# Altium schematic symbol library MCU_Microchip_PIC18.SchLib: 172 symbols (part 2 of 4)
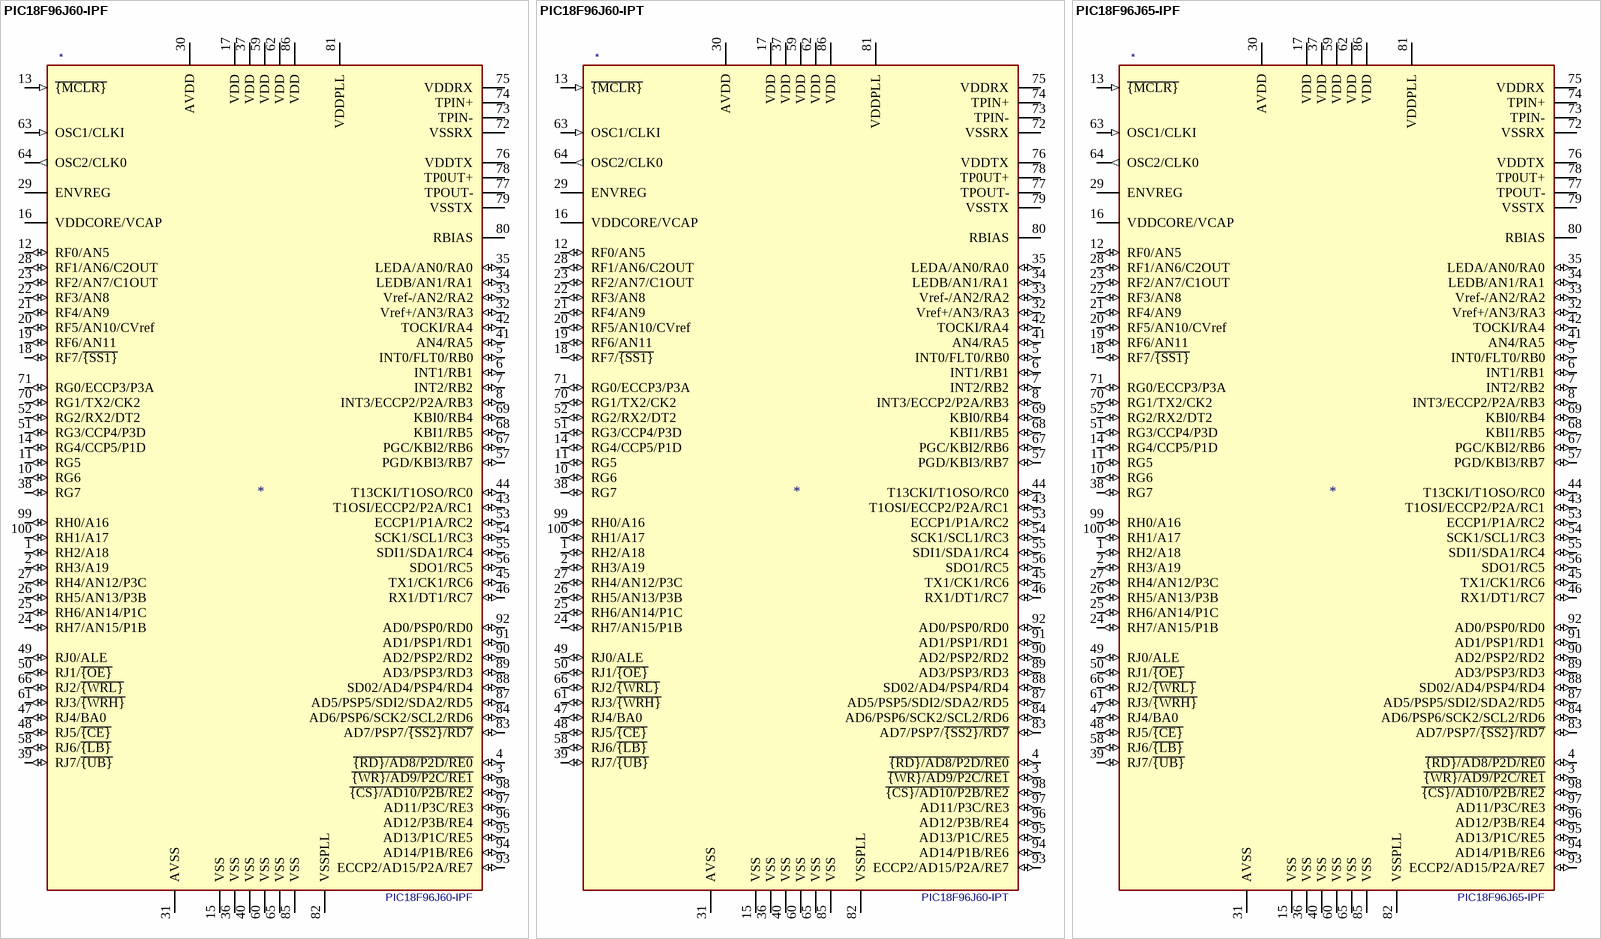
[diagram p17: symbols PIC18F96J60-IPF to PIC18F96J65-IPF]

## PIC18F96J60-IPT
designator *  value PIC18F96J60-IPT
ki_keywords: Flash Based 8-Bit Microcontroller Ethernet Controller PHY; ki_description: 64K Flash, 3.7K SRAM, Ethernet Controller with PHY, 8K Buffer, TQFP100; ki_fp_filters: TQFP*12x12mm*P0.4mm* TQFP*14x14mm*P0.5mm*; Footprint: Package_QFP:TQFP-100_12x12mm_P0.4mm; Supplier: http://ww1.microchip.com/downloads/en/DeviceDoc/39762f.pdf
footprint TQFP-100_12x12mm_P0.4mm
pins: 1 RH2/A18 (io), 2 RH3/A19 (io), 3 ~{{WR}/AD9/P2C/RE1} (io), 4 ~{{RD}/AD8/P2D/RE0} (io), 5 INT0/FLT0/RB0 (io), 6 INT1/RB1 (io), 7 INT2/RB2 (io), 8 INT3/ECCP2/P2A/RB3 (io), 9 NC (in) hidden, 10 RG6 (io), 11 RG5 (io), 12 RF0/AN5 (io), 13 ~{{MCLR}} (in), 14 RG4/CCP5/P1D (io), 15 VSS (power), 16 VDDCORE/VCAP, 17 VDD (power), 18 RF7/~{{SS1}} (io), 19 RF6/AN11 (io), 20 RF5/AN10/CVref (io), 21 RF4/AN9 (io), 22 RF3/AN8 (io), 23 RF2/AN7/C1OUT (io), 24 RH7/AN15/P1B (io), 25 RH6/AN14/P1C (io), 26 RH5/AN13/P3B (io), 27 RH4/AN12/P3C (io), 28 RF1/AN6/C2OUT (io), 29 ENVREG, 30 AVDD (power), 31 AVSS (power), 32 Vref+/AN3/RA3 (io), 33 Vref-/AN2/RA2 (io), 34 LEDB/AN1/RA1 (io), 35 LEDA/AN0/RA0 (io), 36 VSS (power), 37 VDD (power), 38 RG7 (io), 39 RJ7/~{{UB}} (io), 40 VSS (power), 41 AN4/RA5 (io), 42 TOCKI/RA4 (io), 43 T1OSI/ECCP2/P2A/RC1 (io), 44 T13CKI/T1OSO/RC0 (io), 45 TX1/CK1/RC6 (io), 46 RX1/DT1/RC7 (io), 47 RJ4/BA0 (io), 48 RJ5/~{{CE}} (io), 49 RJ0/ALE (io), 50 RJ1/~{{OE}} (io), 51 RG3/CCP4/P3D (io), 52 RG2/RX2/DT2 (io), 53 ECCP1/P1A/RC2 (io), 54 SCK1/SCL1/RC3 (io), 55 SDI1/SDA1/RC4 (io), 56 SDO1/RC5 (io), 57 PGD/KBI3/RB7 (io), 58 RJ6/~{{LB}} (io), 59 VDD (power), 60 VSS (power), 61 RJ3/~{{WRH}} (io), 62 VDD (power), 63 OSC1/CLKI (in), 64 OSC2/CLK0 (out), 65 VSS (power), 66 RJ2/~{{WRL}} (io), 67 PGC/KBI2/RB6 (io), 68 KBI1/RB5 (io), 69 KBI0/RB4 (io), 70 RG1/TX2/CK2 (io), 71 RG0/ECCP3/P3A (io), 72 VSSRX (power), 73 TPIN-, 74 TPIN+, 75 VDDRX (power), 76 VDDTX (power), 77 TPOUT-, 78 TP0UT+, 79 VSSTX (power), 80 RBIAS, 81 VDDPLL (power), 82 VSSPLL (power), 83 AD7/PSP7/~{{SS2}/RD7} (io), 84 AD6/PSP6/SCK2/SCL2/RD6 (io), 85 VSS (power), 86 VDD (power), 87 AD5/PSP5/SDI2/SDA2/RD5 (io), 88 SD02/AD4/PSP4/RD4 (io), 89 AD3/PSP3/RD3 (io), 90 AD2/PSP2/RD2 (io), 91 AD1/PSP1/RD1 (io), 92 AD0/PSP0/RD0 (io), 93 ECCP2/AD15/P2A/RE7 (io), 94 AD14/P1B/RE6 (io), 95 AD13/P1C/RE5 (io), 96 AD12/P3B/RE4 (io), 97 AD11/P3C/RE3 (io), 98 ~{{CS}/AD10/P2B/RE2} (io), 99 RH0/A16 (io), 100 RH1/A17 (io)

## PIC18F96J65-IPF
designator *  value PIC18F96J65-IPF
ki_keywords: Flash Based 8-Bit Microcontroller Ethernet Controller PHY; ki_description: 96K Flash, 3.7K SRAM, Ethernet Controller with PHY, 8K Buffer, TQFP100 (14x14mm); ki_fp_filters: TQFP*12x12mm*P0.4mm* TQFP*14x14mm*P0.5mm*; Footprint: Package_QFP:TQFP-100_12x12mm_P0.4mm; Supplier: http://ww1.microchip.com/downloads/en/DeviceDoc/39762f.pdf
footprint TQFP-100_12x12mm_P0.4mm
pins: 1 RH2/A18 (io), 2 RH3/A19 (io), 3 ~{{WR}/AD9/P2C/RE1} (io), 4 ~{{RD}/AD8/P2D/RE0} (io), 5 INT0/FLT0/RB0 (io), 6 INT1/RB1 (io), 7 INT2/RB2 (io), 8 INT3/ECCP2/P2A/RB3 (io), 9 NC (in) hidden, 10 RG6 (io), 11 RG5 (io), 12 RF0/AN5 (io), 13 ~{{MCLR}} (in), 14 RG4/CCP5/P1D (io), 15 VSS (power), 16 VDDCORE/VCAP, 17 VDD (power), 18 RF7/~{{SS1}} (io), 19 RF6/AN11 (io), 20 RF5/AN10/CVref (io), 21 RF4/AN9 (io), 22 RF3/AN8 (io), 23 RF2/AN7/C1OUT (io), 24 RH7/AN15/P1B (io), 25 RH6/AN14/P1C (io), 26 RH5/AN13/P3B (io), 27 RH4/AN12/P3C (io), 28 RF1/AN6/C2OUT (io), 29 ENVREG, 30 AVDD (power), 31 AVSS (power), 32 Vref+/AN3/RA3 (io), 33 Vref-/AN2/RA2 (io), 34 LEDB/AN1/RA1 (io), 35 LEDA/AN0/RA0 (io), 36 VSS (power), 37 VDD (power), 38 RG7 (io), 39 RJ7/~{{UB}} (io), 40 VSS (power), 41 AN4/RA5 (io), 42 TOCKI/RA4 (io), 43 T1OSI/ECCP2/P2A/RC1 (io), 44 T13CKI/T1OSO/RC0 (io), 45 TX1/CK1/RC6 (io), 46 RX1/DT1/RC7 (io), 47 RJ4/BA0 (io), 48 RJ5/~{{CE}} (io), 49 RJ0/ALE (io), 50 RJ1/~{{OE}} (io), 51 RG3/CCP4/P3D (io), 52 RG2/RX2/DT2 (io), 53 ECCP1/P1A/RC2 (io), 54 SCK1/SCL1/RC3 (io), 55 SDI1/SDA1/RC4 (io), 56 SDO1/RC5 (io), 57 PGD/KBI3/RB7 (io), 58 RJ6/~{{LB}} (io), 59 VDD (power), 60 VSS (power), 61 RJ3/~{{WRH}} (io), 62 VDD (power), 63 OSC1/CLKI (in), 64 OSC2/CLK0 (out), 65 VSS (power), 66 RJ2/~{{WRL}} (io), 67 PGC/KBI2/RB6 (io), 68 KBI1/RB5 (io), 69 KBI0/RB4 (io), 70 RG1/TX2/CK2 (io), 71 RG0/ECCP3/P3A (io), 72 VSSRX (power), 73 TPIN-, 74 TPIN+, 75 VDDRX (power), 76 VDDTX (power), 77 TPOUT-, 78 TP0UT+, 79 VSSTX (power), 80 RBIAS, 81 VDDPLL (power), 82 VSSPLL (power), 83 AD7/PSP7/~{{SS2}/RD7} (io), 84 AD6/PSP6/SCK2/SCL2/RD6 (io), 85 VSS (power), 86 VDD (power), 87 AD5/PSP5/SDI2/SDA2/RD5 (io), 88 SD02/AD4/PSP4/RD4 (io), 89 AD3/PSP3/RD3 (io), 90 AD2/PSP2/RD2 (io), 91 AD1/PSP1/RD1 (io), 92 AD0/PSP0/RD0 (io), 93 ECCP2/AD15/P2A/RE7 (io), 94 AD14/P1B/RE6 (io), 95 AD13/P1C/RE5 (io), 96 AD12/P3B/RE4 (io), 97 AD11/P3C/RE3 (io), 98 ~{{CS}/AD10/P2B/RE2} (io), 99 RH0/A16 (io), 100 RH1/A17 (io)

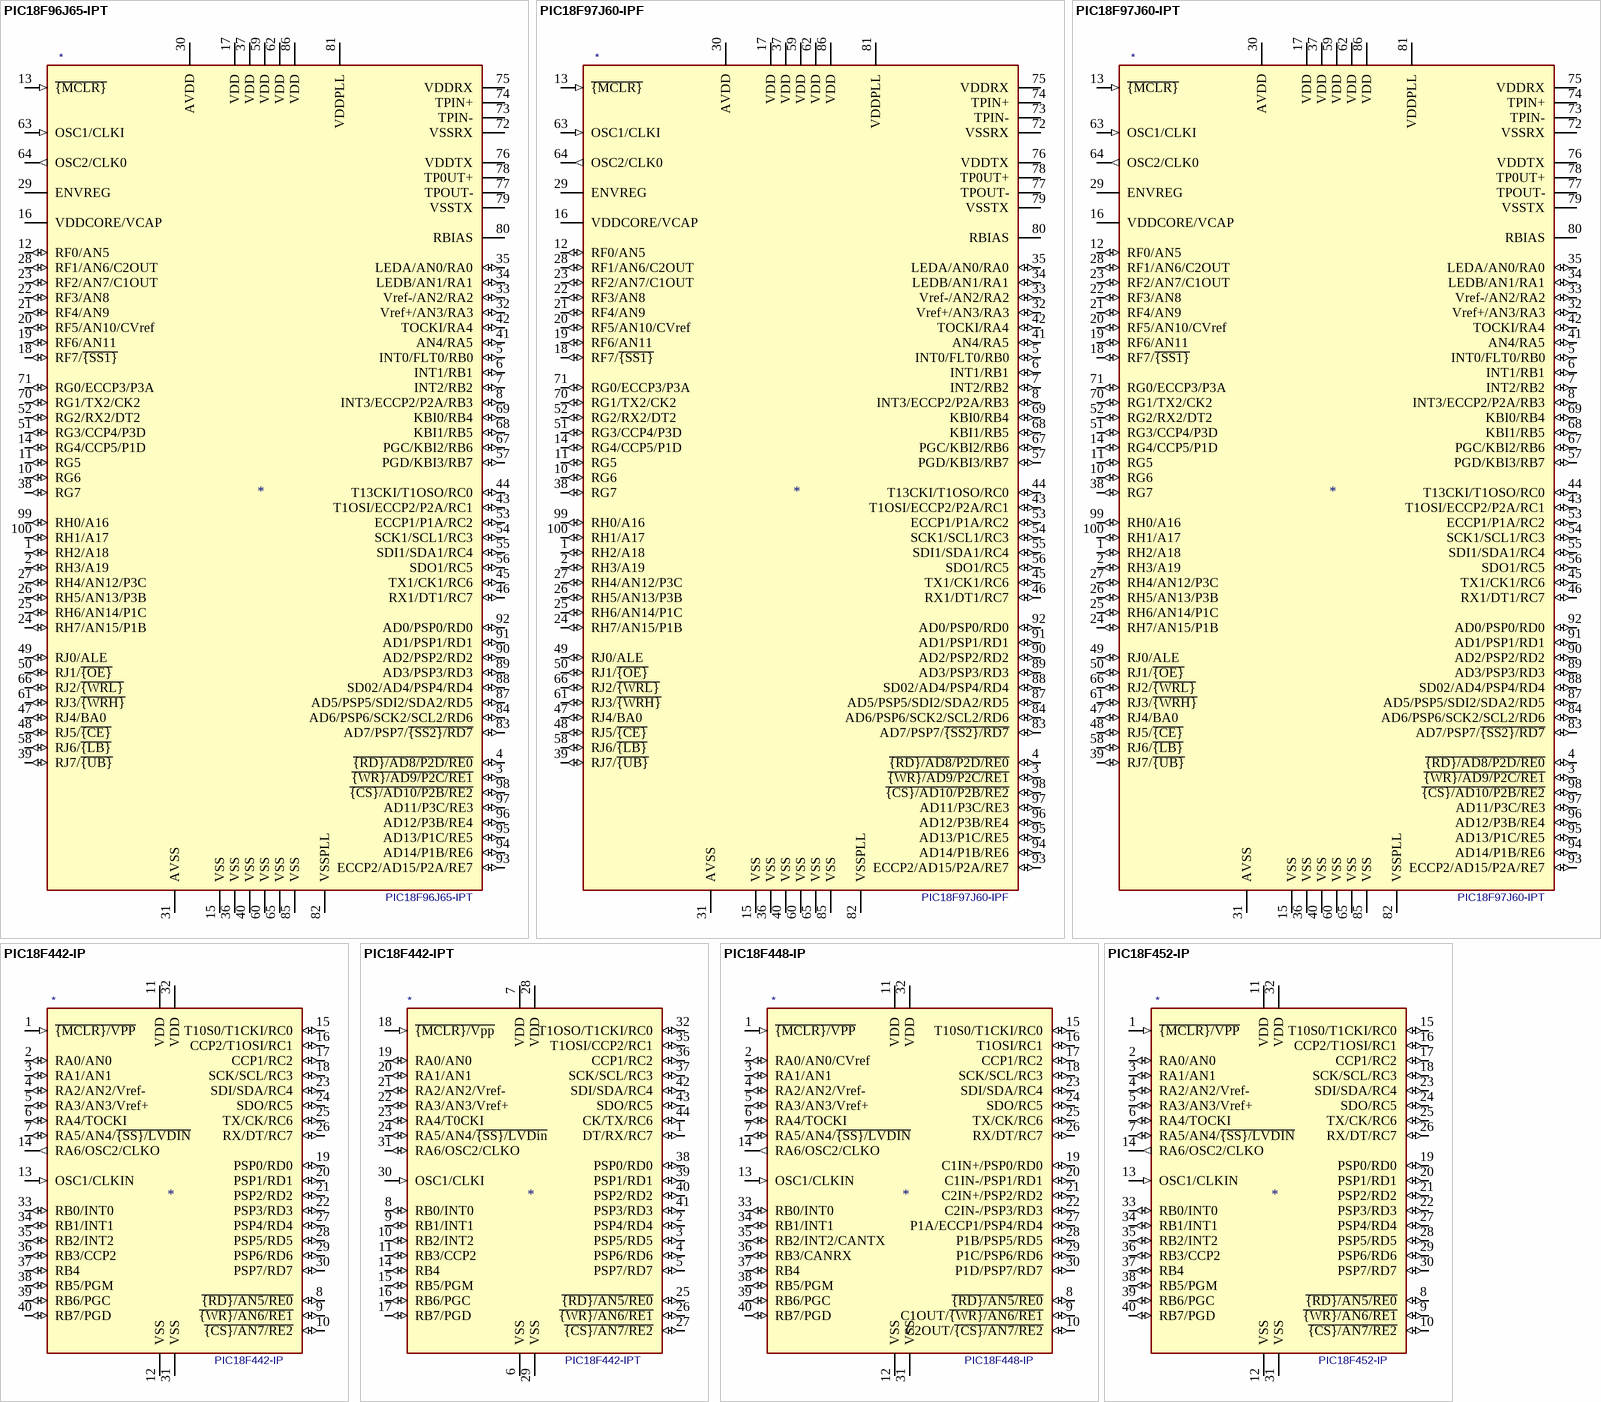
[diagram p5: symbols PIC18F96J65-IPT to PIC18F452-IP]

## PIC18F96J65-IPT
designator *  value PIC18F96J65-IPT
ki_keywords: Flash Based 8-Bit Microcontroller Ethernet Controller PHY; ki_description: 96K Flash, 3.7K SRAM, Ethernet Controller with PHY, 8K Buffer, TQFP100; ki_fp_filters: TQFP*12x12mm*P0.4mm* TQFP*14x14mm*P0.5mm*; Footprint: Package_QFP:TQFP-100_12x12mm_P0.4mm; Supplier: http://ww1.microchip.com/downloads/en/DeviceDoc/39762f.pdf
footprint TQFP-100_12x12mm_P0.4mm
pins: 1 RH2/A18 (io), 2 RH3/A19 (io), 3 ~{{WR}/AD9/P2C/RE1} (io), 4 ~{{RD}/AD8/P2D/RE0} (io), 5 INT0/FLT0/RB0 (io), 6 INT1/RB1 (io), 7 INT2/RB2 (io), 8 INT3/ECCP2/P2A/RB3 (io), 9 NC (in) hidden, 10 RG6 (io), 11 RG5 (io), 12 RF0/AN5 (io), 13 ~{{MCLR}} (in), 14 RG4/CCP5/P1D (io), 15 VSS (power), 16 VDDCORE/VCAP, 17 VDD (power), 18 RF7/~{{SS1}} (io), 19 RF6/AN11 (io), 20 RF5/AN10/CVref (io), 21 RF4/AN9 (io), 22 RF3/AN8 (io), 23 RF2/AN7/C1OUT (io), 24 RH7/AN15/P1B (io), 25 RH6/AN14/P1C (io), 26 RH5/AN13/P3B (io), 27 RH4/AN12/P3C (io), 28 RF1/AN6/C2OUT (io), 29 ENVREG, 30 AVDD (power), 31 AVSS (power), 32 Vref+/AN3/RA3 (io), 33 Vref-/AN2/RA2 (io), 34 LEDB/AN1/RA1 (io), 35 LEDA/AN0/RA0 (io), 36 VSS (power), 37 VDD (power), 38 RG7 (io), 39 RJ7/~{{UB}} (io), 40 VSS (power), 41 AN4/RA5 (io), 42 TOCKI/RA4 (io), 43 T1OSI/ECCP2/P2A/RC1 (io), 44 T13CKI/T1OSO/RC0 (io), 45 TX1/CK1/RC6 (io), 46 RX1/DT1/RC7 (io), 47 RJ4/BA0 (io), 48 RJ5/~{{CE}} (io), 49 RJ0/ALE (io), 50 RJ1/~{{OE}} (io), 51 RG3/CCP4/P3D (io), 52 RG2/RX2/DT2 (io), 53 ECCP1/P1A/RC2 (io), 54 SCK1/SCL1/RC3 (io), 55 SDI1/SDA1/RC4 (io), 56 SDO1/RC5 (io), 57 PGD/KBI3/RB7 (io), 58 RJ6/~{{LB}} (io), 59 VDD (power), 60 VSS (power), 61 RJ3/~{{WRH}} (io), 62 VDD (power), 63 OSC1/CLKI (in), 64 OSC2/CLK0 (out), 65 VSS (power), 66 RJ2/~{{WRL}} (io), 67 PGC/KBI2/RB6 (io), 68 KBI1/RB5 (io), 69 KBI0/RB4 (io), 70 RG1/TX2/CK2 (io), 71 RG0/ECCP3/P3A (io), 72 VSSRX (power), 73 TPIN-, 74 TPIN+, 75 VDDRX (power), 76 VDDTX (power), 77 TPOUT-, 78 TP0UT+, 79 VSSTX (power), 80 RBIAS, 81 VDDPLL (power), 82 VSSPLL (power), 83 AD7/PSP7/~{{SS2}/RD7} (io), 84 AD6/PSP6/SCK2/SCL2/RD6 (io), 85 VSS (power), 86 VDD (power), 87 AD5/PSP5/SDI2/SDA2/RD5 (io), 88 SD02/AD4/PSP4/RD4 (io), 89 AD3/PSP3/RD3 (io), 90 AD2/PSP2/RD2 (io), 91 AD1/PSP1/RD1 (io), 92 AD0/PSP0/RD0 (io), 93 ECCP2/AD15/P2A/RE7 (io), 94 AD14/P1B/RE6 (io), 95 AD13/P1C/RE5 (io), 96 AD12/P3B/RE4 (io), 97 AD11/P3C/RE3 (io), 98 ~{{CS}/AD10/P2B/RE2} (io), 99 RH0/A16 (io), 100 RH1/A17 (io)

## PIC18F97J60-IPF
designator *  value PIC18F97J60-IPF
ki_keywords: Flash Based 8-Bit Microcontroller Ethernet Controller PHY; ki_description: 128K Flash, 3.7K SRAM, Ethernet Controller with PHY, 8K Buffer, TQFP100 (14x14mm); ki_fp_filters: TQFP*12x12mm*P0.4mm* TQFP*14x14mm*P0.5mm*; Footprint: Package_QFP:TQFP-100_12x12mm_P0.4mm; Supplier: http://ww1.microchip.com/downloads/en/DeviceDoc/39762f.pdf
footprint TQFP-100_12x12mm_P0.4mm
pins: 1 RH2/A18 (io), 2 RH3/A19 (io), 3 ~{{WR}/AD9/P2C/RE1} (io), 4 ~{{RD}/AD8/P2D/RE0} (io), 5 INT0/FLT0/RB0 (io), 6 INT1/RB1 (io), 7 INT2/RB2 (io), 8 INT3/ECCP2/P2A/RB3 (io), 9 NC (in) hidden, 10 RG6 (io), 11 RG5 (io), 12 RF0/AN5 (io), 13 ~{{MCLR}} (in), 14 RG4/CCP5/P1D (io), 15 VSS (power), 16 VDDCORE/VCAP, 17 VDD (power), 18 RF7/~{{SS1}} (io), 19 RF6/AN11 (io), 20 RF5/AN10/CVref (io), 21 RF4/AN9 (io), 22 RF3/AN8 (io), 23 RF2/AN7/C1OUT (io), 24 RH7/AN15/P1B (io), 25 RH6/AN14/P1C (io), 26 RH5/AN13/P3B (io), 27 RH4/AN12/P3C (io), 28 RF1/AN6/C2OUT (io), 29 ENVREG, 30 AVDD (power), 31 AVSS (power), 32 Vref+/AN3/RA3 (io), 33 Vref-/AN2/RA2 (io), 34 LEDB/AN1/RA1 (io), 35 LEDA/AN0/RA0 (io), 36 VSS (power), 37 VDD (power), 38 RG7 (io), 39 RJ7/~{{UB}} (io), 40 VSS (power), 41 AN4/RA5 (io), 42 TOCKI/RA4 (io), 43 T1OSI/ECCP2/P2A/RC1 (io), 44 T13CKI/T1OSO/RC0 (io), 45 TX1/CK1/RC6 (io), 46 RX1/DT1/RC7 (io), 47 RJ4/BA0 (io), 48 RJ5/~{{CE}} (io), 49 RJ0/ALE (io), 50 RJ1/~{{OE}} (io), 51 RG3/CCP4/P3D (io), 52 RG2/RX2/DT2 (io), 53 ECCP1/P1A/RC2 (io), 54 SCK1/SCL1/RC3 (io), 55 SDI1/SDA1/RC4 (io), 56 SDO1/RC5 (io), 57 PGD/KBI3/RB7 (io), 58 RJ6/~{{LB}} (io), 59 VDD (power), 60 VSS (power), 61 RJ3/~{{WRH}} (io), 62 VDD (power), 63 OSC1/CLKI (in), 64 OSC2/CLK0 (out), 65 VSS (power), 66 RJ2/~{{WRL}} (io), 67 PGC/KBI2/RB6 (io), 68 KBI1/RB5 (io), 69 KBI0/RB4 (io), 70 RG1/TX2/CK2 (io), 71 RG0/ECCP3/P3A (io), 72 VSSRX (power), 73 TPIN-, 74 TPIN+, 75 VDDRX (power), 76 VDDTX (power), 77 TPOUT-, 78 TP0UT+, 79 VSSTX (power), 80 RBIAS, 81 VDDPLL (power), 82 VSSPLL (power), 83 AD7/PSP7/~{{SS2}/RD7} (io), 84 AD6/PSP6/SCK2/SCL2/RD6 (io), 85 VSS (power), 86 VDD (power), 87 AD5/PSP5/SDI2/SDA2/RD5 (io), 88 SD02/AD4/PSP4/RD4 (io), 89 AD3/PSP3/RD3 (io), 90 AD2/PSP2/RD2 (io), 91 AD1/PSP1/RD1 (io), 92 AD0/PSP0/RD0 (io), 93 ECCP2/AD15/P2A/RE7 (io), 94 AD14/P1B/RE6 (io), 95 AD13/P1C/RE5 (io), 96 AD12/P3B/RE4 (io), 97 AD11/P3C/RE3 (io), 98 ~{{CS}/AD10/P2B/RE2} (io), 99 RH0/A16 (io), 100 RH1/A17 (io)

## PIC18F97J60-IPT
designator *  value PIC18F97J60-IPT
ki_keywords: Flash Based 8-Bit Microcontroller Ethernet Controller PHY; ki_description: 128K Flash, 3.7K SRAM, Ethernet Controller with PHY, 8K Buffer, TQFP100; ki_fp_filters: TQFP*12x12mm*P0.4mm* TQFP*14x14mm*P0.5mm*; Footprint: Package_QFP:TQFP-100_12x12mm_P0.4mm; Supplier: http://ww1.microchip.com/downloads/en/DeviceDoc/39762f.pdf
footprint TQFP-100_12x12mm_P0.4mm
pins: 1 RH2/A18 (io), 2 RH3/A19 (io), 3 ~{{WR}/AD9/P2C/RE1} (io), 4 ~{{RD}/AD8/P2D/RE0} (io), 5 INT0/FLT0/RB0 (io), 6 INT1/RB1 (io), 7 INT2/RB2 (io), 8 INT3/ECCP2/P2A/RB3 (io), 9 NC (in) hidden, 10 RG6 (io), 11 RG5 (io), 12 RF0/AN5 (io), 13 ~{{MCLR}} (in), 14 RG4/CCP5/P1D (io), 15 VSS (power), 16 VDDCORE/VCAP, 17 VDD (power), 18 RF7/~{{SS1}} (io), 19 RF6/AN11 (io), 20 RF5/AN10/CVref (io), 21 RF4/AN9 (io), 22 RF3/AN8 (io), 23 RF2/AN7/C1OUT (io), 24 RH7/AN15/P1B (io), 25 RH6/AN14/P1C (io), 26 RH5/AN13/P3B (io), 27 RH4/AN12/P3C (io), 28 RF1/AN6/C2OUT (io), 29 ENVREG, 30 AVDD (power), 31 AVSS (power), 32 Vref+/AN3/RA3 (io), 33 Vref-/AN2/RA2 (io), 34 LEDB/AN1/RA1 (io), 35 LEDA/AN0/RA0 (io), 36 VSS (power), 37 VDD (power), 38 RG7 (io), 39 RJ7/~{{UB}} (io), 40 VSS (power), 41 AN4/RA5 (io), 42 TOCKI/RA4 (io), 43 T1OSI/ECCP2/P2A/RC1 (io), 44 T13CKI/T1OSO/RC0 (io), 45 TX1/CK1/RC6 (io), 46 RX1/DT1/RC7 (io), 47 RJ4/BA0 (io), 48 RJ5/~{{CE}} (io), 49 RJ0/ALE (io), 50 RJ1/~{{OE}} (io), 51 RG3/CCP4/P3D (io), 52 RG2/RX2/DT2 (io), 53 ECCP1/P1A/RC2 (io), 54 SCK1/SCL1/RC3 (io), 55 SDI1/SDA1/RC4 (io), 56 SDO1/RC5 (io), 57 PGD/KBI3/RB7 (io), 58 RJ6/~{{LB}} (io), 59 VDD (power), 60 VSS (power), 61 RJ3/~{{WRH}} (io), 62 VDD (power), 63 OSC1/CLKI (in), 64 OSC2/CLK0 (out), 65 VSS (power), 66 RJ2/~{{WRL}} (io), 67 PGC/KBI2/RB6 (io), 68 KBI1/RB5 (io), 69 KBI0/RB4 (io), 70 RG1/TX2/CK2 (io), 71 RG0/ECCP3/P3A (io), 72 VSSRX (power), 73 TPIN-, 74 TPIN+, 75 VDDRX (power), 76 VDDTX (power), 77 TPOUT-, 78 TP0UT+, 79 VSSTX (power), 80 RBIAS, 81 VDDPLL (power), 82 VSSPLL (power), 83 AD7/PSP7/~{{SS2}/RD7} (io), 84 AD6/PSP6/SCK2/SCL2/RD6 (io), 85 VSS (power), 86 VDD (power), 87 AD5/PSP5/SDI2/SDA2/RD5 (io), 88 SD02/AD4/PSP4/RD4 (io), 89 AD3/PSP3/RD3 (io), 90 AD2/PSP2/RD2 (io), 91 AD1/PSP1/RD1 (io), 92 AD0/PSP0/RD0 (io), 93 ECCP2/AD15/P2A/RE7 (io), 94 AD14/P1B/RE6 (io), 95 AD13/P1C/RE5 (io), 96 AD12/P3B/RE4 (io), 97 AD11/P3C/RE3 (io), 98 ~{{CS}/AD10/P2B/RE2} (io), 99 RH0/A16 (io), 100 RH1/A17 (io)

## PIC18F442-IP
designator *  value PIC18F442-IP
ki_keywords: Flash-Based 8-Bit Microcontroller; ki_description: 16K Flash, 768B SRAM, 256 EEPROM, ADC, DIP40; ki_fp_filters: DIP*W15.24mm* PDIP*W15.24mm*; Footprint: Package_DIP:DIP-40_W15.24mm; Supplier: http://ww1.microchip.com/downloads/en/DeviceDoc/39564c.pdf
footprint DIP-40_W15.24mm
pins: 1 ~{{MCLR}/VPP} (in), 2 RA0/AN0 (io), 3 RA1/AN1 (io), 4 RA2/AN2/Vref- (io), 5 RA3/AN3/Vref+ (io), 6 RA4/TOCKI (io), 7 RA5/AN4/~{{SS}/LVDIN} (io), 8 ~{{RD}/AN5/RE0} (io), 9 ~{{WR}/AN6/RE1} (io), 10 ~{{CS}/AN7/RE2} (io), 11 VDD (power), 12 VSS (power), 13 OSC1/CLKIN (in), 14 RA6/OSC2/CLKO (out), 15 T10S0/T1CKI/RC0 (io), 16 CCP2/T1OSI/RC1 (io), 17 CCP1/RC2 (io), 18 SCK/SCL/RC3 (io), 19 PSP0/RD0 (io), 20 PSP1/RD1 (io), 21 PSP2/RD2 (io), 22 PSP3/RD3 (io), 23 SDI/SDA/RC4 (io), 24 SDO/RC5 (io), 25 TX/CK/RC6 (io), 26 RX/DT/RC7 (io), 27 PSP4/RD4 (io), 28 PSP5/RD5 (io), 29 PSP6/RD6 (io), 30 PSP7/RD7 (io), 31 VSS (power), 32 VDD (power), 33 RB0/INT0 (io), 34 RB1/INT1 (io), 35 RB2/INT2 (io), 36 RB3/CCP2 (io), 37 RB4 (io), 38 RB5/PGM (io), 39 RB6/PGC (io), 40 RB7/PGD (io)

## PIC18F442-IPT
designator *  value PIC18F442-IPT
ki_keywords: Flash-Based 8-Bit Microcontroller; ki_description: 16K Flash, 768B SRAM, 256 EEPROM, ADC, TQFP-44; ki_fp_filters: TQFP*10x10mm*P0.8mm*; Footprint: Package_QFP:TQFP-44_10x10mm_P0.8mm; Supplier: http://ww1.microchip.com/downloads/en/DeviceDoc/39564c.pdf
footprint TQFP-44_10x10mm_P0.8mm
pins: 1 DT/RX/RC7 (io), 2 PSP4/RD4 (io), 3 PSP5/RD5 (io), 4 PSP6/RD6 (io), 5 PSP7/RD7 (io), 6 VSS (power), 7 VDD (power), 8 RB0/INT0 (io), 9 RB1/INT1 (io), 10 RB2/INT2 (io), 11 RB3/CCP2 (io), 12 NC (in) hidden, 13 NC (in) hidden, 14 RB4 (io), 15 RB5/PGM (io), 16 RB6/PGC (io), 17 RB7/PGD (io), 18 ~{{MCLR}/Vpp} (in), 19 RA0/AN0 (io), 20 RA1/AN1 (io), 21 RA2/AN2/Vref- (io), 22 RA3/AN3/Vref+ (io), 23 RA4/T0CKI (io), 24 RA5/AN4/~{{SS}/LVDin} (io), 25 ~{{RD}/AN5/RE0} (io), 26 ~{{WR}/AN6/RE1} (io), 27 ~{{CS}/AN7/RE2} (io), 28 VDD (power), 29 VSS (power), 30 OSC1/CLKI (in), 31 RA6/OSC2/CLKO (io), 32 T1OSO/T1CKI/RC0 (io), 33 NC (in) hidden, 34 NC (in) hidden, 35 T1OSI/CCP2/RC1 (io), 36 CCP1/RC2 (io), 37 SCK/SCL/RC3 (io), 38 PSP0/RD0 (io), 39 PSP1/RD1 (io), 40 PSP2/RD2 (io), 41 PSP3/RD3 (io), 42 SDI/SDA/RC4 (io), 43 SDO/RC5 (io), 44 CK/TX/RC6 (io)

## PIC18F448-IP
designator *  value PIC18F448-IP
ki_keywords: Flash-Based 8-Bit Microcontroller CAN; ki_description: 16K Flash, 768B SRAM, 256 EEPROM, CAN, DIP40; ki_fp_filters: DIP*W15.24mm* PDIP*W15.24mm*; Footprint: Package_DIP:DIP-40_W15.24mm; Supplier: http://ww1.microchip.com/downloads/en/DeviceDoc/41159e.pdf
footprint DIP-40_W15.24mm
pins: 1 ~{{MCLR}/VPP} (in), 2 RA0/AN0/CVref (io), 3 RA1/AN1 (io), 4 RA2/AN2/Vref- (io), 5 RA3/AN3/Vref+ (io), 6 RA4/TOCKI (io), 7 RA5/AN4/~{{SS}/LVDIN} (io), 8 ~{{RD}/AN5/RE0} (io), 9 C1OUT/~{{WR}/AN6/RE1} (io), 10 C2OUT/~{{CS}/AN7/RE2} (io), 11 VDD (power), 12 VSS (power), 13 OSC1/CLKIN (in), 14 RA6/OSC2/CLKO (out), 15 T10S0/T1CKI/RC0 (io), 16 T1OSI/RC1 (io), 17 CCP1/RC2 (io), 18 SCK/SCL/RC3 (io), 19 C1IN+/PSP0/RD0 (io), 20 C1IN-/PSP1/RD1 (io), 21 C2IN+/PSP2/RD2 (io), 22 C2IN-/PSP3/RD3 (io), 23 SDI/SDA/RC4 (io), 24 SDO/RC5 (io), 25 TX/CK/RC6 (io), 26 RX/DT/RC7 (io), 27 P1A/ECCP1/PSP4/RD4 (io), 28 P1B/PSP5/RD5 (io), 29 P1C/PSP6/RD6 (io), 30 P1D/PSP7/RD7 (io), 31 VSS (power), 32 VDD (power), 33 RB0/INT0 (io), 34 RB1/INT1 (io), 35 RB2/INT2/CANTX (io), 36 RB3/CANRX (io), 37 RB4 (io), 38 RB5/PGM (io), 39 RB6/PGC (io), 40 RB7/PGD (io)

## PIC18F452-IP
designator *  value PIC18F452-IP
ki_keywords: Flash-Based 8-Bit Microcontroller; ki_description: 32K Flash, 1536B SRAM, 256 EEPROM, ADC, DIP40; ki_fp_filters: DIP*W15.24mm* PDIP*W15.24mm*; Footprint: Package_DIP:DIP-40_W15.24mm; Supplier: http://ww1.microchip.com/downloads/en/DeviceDoc/39564c.pdf
footprint DIP-40_W15.24mm
pins: 1 ~{{MCLR}/VPP} (in), 2 RA0/AN0 (io), 3 RA1/AN1 (io), 4 RA2/AN2/Vref- (io), 5 RA3/AN3/Vref+ (io), 6 RA4/TOCKI (io), 7 RA5/AN4/~{{SS}/LVDIN} (io), 8 ~{{RD}/AN5/RE0} (io), 9 ~{{WR}/AN6/RE1} (io), 10 ~{{CS}/AN7/RE2} (io), 11 VDD (power), 12 VSS (power), 13 OSC1/CLKIN (in), 14 RA6/OSC2/CLKO (out), 15 T10S0/T1CKI/RC0 (io), 16 CCP2/T1OSI/RC1 (io), 17 CCP1/RC2 (io), 18 SCK/SCL/RC3 (io), 19 PSP0/RD0 (io), 20 PSP1/RD1 (io), 21 PSP2/RD2 (io), 22 PSP3/RD3 (io), 23 SDI/SDA/RC4 (io), 24 SDO/RC5 (io), 25 TX/CK/RC6 (io), 26 RX/DT/RC7 (io), 27 PSP4/RD4 (io), 28 PSP5/RD5 (io), 29 PSP6/RD6 (io), 30 PSP7/RD7 (io), 31 VSS (power), 32 VDD (power), 33 RB0/INT0 (io), 34 RB1/INT1 (io), 35 RB2/INT2 (io), 36 RB3/CCP2 (io), 37 RB4 (io), 38 RB5/PGM (io), 39 RB6/PGC (io), 40 RB7/PGD (io)

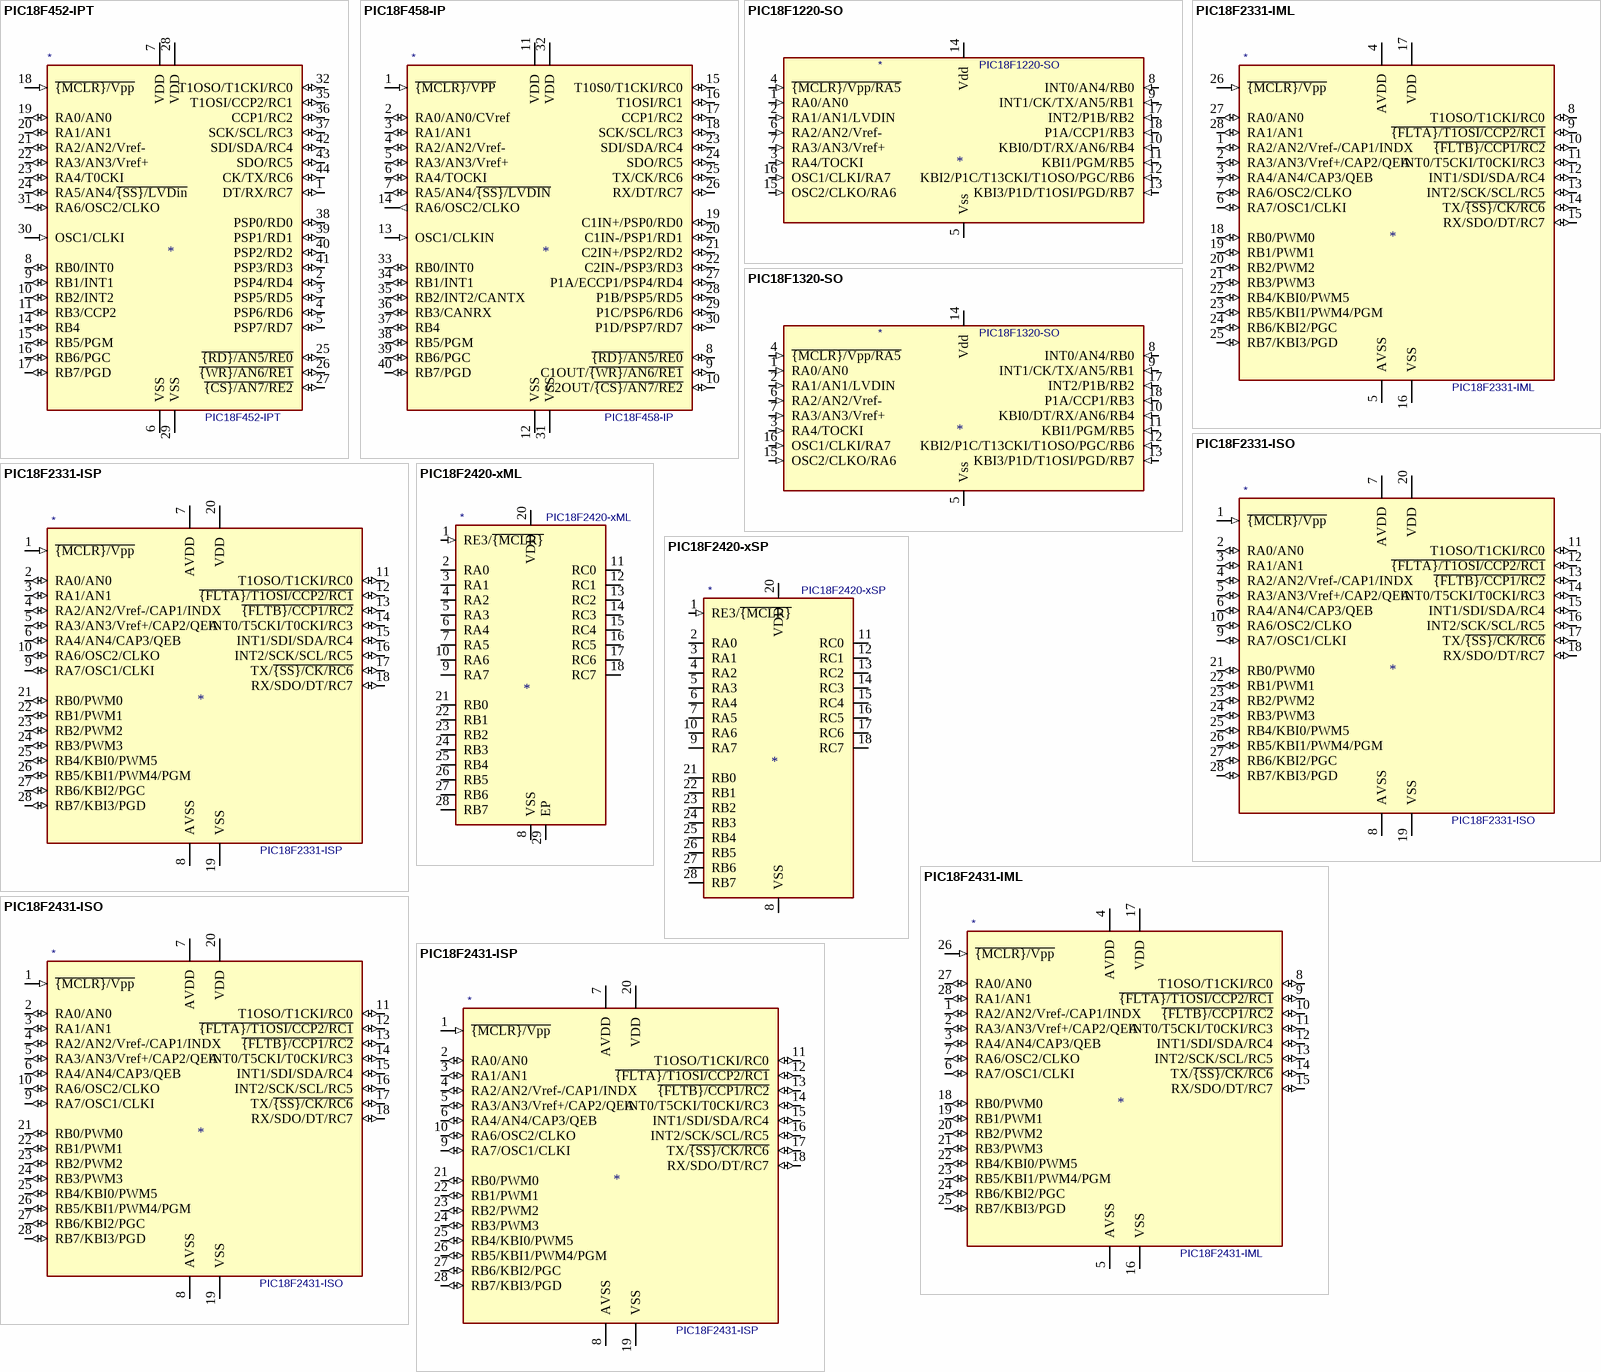
[diagram p6: symbols PIC18F452-IPT to PIC18F2431-ISP]

## PIC18F452-IPT
designator *  value PIC18F452-IPT
ki_keywords: Flash-Based 8-Bit Microcontroller; ki_description: 32K Flash, 1536B SRAM, 256 EEPROM, ADC, TQFP-44; ki_fp_filters: TQFP*10x10mm*P0.8mm*; Footprint: Package_QFP:TQFP-44_10x10mm_P0.8mm; Supplier: http://ww1.microchip.com/downloads/en/DeviceDoc/39564c.pdf
footprint TQFP-44_10x10mm_P0.8mm
pins: 1 DT/RX/RC7 (io), 2 PSP4/RD4 (io), 3 PSP5/RD5 (io), 4 PSP6/RD6 (io), 5 PSP7/RD7 (io), 6 VSS (power), 7 VDD (power), 8 RB0/INT0 (io), 9 RB1/INT1 (io), 10 RB2/INT2 (io), 11 RB3/CCP2 (io), 12 NC (in) hidden, 13 NC (in) hidden, 14 RB4 (io), 15 RB5/PGM (io), 16 RB6/PGC (io), 17 RB7/PGD (io), 18 ~{{MCLR}/Vpp} (in), 19 RA0/AN0 (io), 20 RA1/AN1 (io), 21 RA2/AN2/Vref- (io), 22 RA3/AN3/Vref+ (io), 23 RA4/T0CKI (io), 24 RA5/AN4/~{{SS}/LVDin} (io), 25 ~{{RD}/AN5/RE0} (io), 26 ~{{WR}/AN6/RE1} (io), 27 ~{{CS}/AN7/RE2} (io), 28 VDD (power), 29 VSS (power), 30 OSC1/CLKI (in), 31 RA6/OSC2/CLKO (io), 32 T1OSO/T1CKI/RC0 (io), 33 NC (in) hidden, 34 NC (in) hidden, 35 T1OSI/CCP2/RC1 (io), 36 CCP1/RC2 (io), 37 SCK/SCL/RC3 (io), 38 PSP0/RD0 (io), 39 PSP1/RD1 (io), 40 PSP2/RD2 (io), 41 PSP3/RD3 (io), 42 SDI/SDA/RC4 (io), 43 SDO/RC5 (io), 44 CK/TX/RC6 (io)

## PIC18F458-IP
designator *  value PIC18F458-IP
ki_keywords: Flash-Based 8-Bit Microcontroller CAN; ki_description: 32K Flash, 1536B SRAM, 256 EEPROM, CAN, DIP40; ki_fp_filters: DIP*W15.24mm* PDIP*W15.24mm*; Footprint: Package_DIP:DIP-40_W15.24mm; Supplier: http://ww1.microchip.com/downloads/en/DeviceDoc/41159e.pdf
footprint DIP-40_W15.24mm
pins: 1 ~{{MCLR}/VPP} (in), 2 RA0/AN0/CVref (io), 3 RA1/AN1 (io), 4 RA2/AN2/Vref- (io), 5 RA3/AN3/Vref+ (io), 6 RA4/TOCKI (io), 7 RA5/AN4/~{{SS}/LVDIN} (io), 8 ~{{RD}/AN5/RE0} (io), 9 C1OUT/~{{WR}/AN6/RE1} (io), 10 C2OUT/~{{CS}/AN7/RE2} (io), 11 VDD (power), 12 VSS (power), 13 OSC1/CLKIN (in), 14 RA6/OSC2/CLKO (out), 15 T10S0/T1CKI/RC0 (io), 16 T1OSI/RC1 (io), 17 CCP1/RC2 (io), 18 SCK/SCL/RC3 (io), 19 C1IN+/PSP0/RD0 (io), 20 C1IN-/PSP1/RD1 (io), 21 C2IN+/PSP2/RD2 (io), 22 C2IN-/PSP3/RD3 (io), 23 SDI/SDA/RC4 (io), 24 SDO/RC5 (io), 25 TX/CK/RC6 (io), 26 RX/DT/RC7 (io), 27 P1A/ECCP1/PSP4/RD4 (io), 28 P1B/PSP5/RD5 (io), 29 P1C/PSP6/RD6 (io), 30 P1D/PSP7/RD7 (io), 31 VSS (power), 32 VDD (power), 33 RB0/INT0 (io), 34 RB1/INT1 (io), 35 RB2/INT2/CANTX (io), 36 RB3/CANRX (io), 37 RB4 (io), 38 RB5/PGM (io), 39 RB6/PGC (io), 40 RB7/PGD (io)

## PIC18F1220-SO
designator *  value PIC18F1220-SO
ki_keywords: RAM ADC UART PWM; ki_description: 18-Pin Flash Microcontroller 4K Flash 256byte RAM; ki_fp_filters: SOIC*W*7.5x11.6mm*P1.27mm*; Footprint: Package_SO:SOIC-18W_7.5x11.6mm_P1.27mm; Supplier: http://ww1.microchip.com/downloads/en/DeviceDoc/39605F.pdf
footprint SOIC-18W_7.5x11.6mm_P1.27mm
pins: 1 RA0/AN0 (in), 2 RA1/AN1/LVDIN (in), 3 RA4/TOCKI (in), 4 ~{{MCLR}/Vpp/RA5} (in), 5 Vss (power), 6 RA2/AN2/Vref- (in), 7 RA3/AN3/Vref+ (in), 8 INT0/AN4/RB0 (in), 9 INT1/CK/TX/AN5/RB1 (in), 10 KBI0/DT/RX/AN6/RB4 (in), 11 KBI1/PGM/RB5 (in), 12 KBI2/P1C/T13CKI/T1OSO/PGC/RB6 (in), 13 KBI3/P1D/T1OSI/PGD/RB7 (in), 14 Vdd (power), 15 OSC2/CLKO/RA6 (in), 16 OSC1/CLKI/RA7 (in), 17 INT2/P1B/RB2 (in), 18 P1A/CCP1/RB3 (in)

## PIC18F1320-SO
designator *  value PIC18F1320-SO
ki_keywords: RAM ADC UART PWM; ki_description: 18-Pin Flash Microcontroller 8K Flash 256byte RAM; ki_fp_filters: SOIC*W*7.5x11.6mm*P1.27mm*; Footprint: Package_SO:SOIC-18W_7.5x11.6mm_P1.27mm; Supplier: http://ww1.microchip.com/downloads/en/DeviceDoc/39605F.pdf
footprint SOIC-18W_7.5x11.6mm_P1.27mm
pins: 1 RA0/AN0 (in), 2 RA1/AN1/LVDIN (in), 3 RA4/TOCKI (in), 4 ~{{MCLR}/Vpp/RA5} (in), 5 Vss (power), 6 RA2/AN2/Vref- (in), 7 RA3/AN3/Vref+ (in), 8 INT0/AN4/RB0 (in), 9 INT1/CK/TX/AN5/RB1 (in), 10 KBI0/DT/RX/AN6/RB4 (in), 11 KBI1/PGM/RB5 (in), 12 KBI2/P1C/T13CKI/T1OSO/PGC/RB6 (in), 13 KBI3/P1D/T1OSI/PGD/RB7 (in), 14 Vdd (power), 15 OSC2/CLKO/RA6 (in), 16 OSC1/CLKI/RA7 (in), 17 INT2/P1B/RB2 (in), 18 P1A/CCP1/RB3 (in)

## PIC18F2331-IML
designator *  value PIC18F2331-IML
ki_keywords: Flash-Based 8-Bit Microcontroller XLP; ki_description: 8K Flash, 768B SRAM, 256B EEPROM, nanoWatt XLP, ADC, PWM, QFN28; ki_fp_filters: QFN*1EP*6x6mm*P0.65mm*; Footprint: Package_DFN_QFN:QFN-28-1EP_6x6mm_P0.65mm_EP4.25x4.25mm; Supplier: http://ww1.microchip.com/downloads/en/DeviceDoc/39616d.pdf
footprint QFN-28-1EP_6x6mm_P0.65mm_EP4.25x4.25mm
pins: 1 RA2/AN2/Vref-/CAP1/INDX (io), 2 RA3/AN3/Vref+/CAP2/QEA (io), 3 RA4/AN4/CAP3/QEB (io), 4 AVDD (power), 5 AVSS (power), 6 RA7/OSC1/CLKI (io), 7 RA6/OSC2/CLKO (io), 8 T1OSO/T1CKI/RC0 (io), 9 ~{{FLTA}/T1OSI/CCP2/RC1} (io), 10 ~{{FLTB}/CCP1/RC2} (io), 11 INT0/T5CKI/T0CKI/RC3 (io), 12 INT1/SDI/SDA/RC4 (io), 13 INT2/SCK/SCL/RC5 (io), 14 TX/~{{SS}/CK/RC6} (io), 15 RX/SDO/DT/RC7 (io), 16 VSS (power), 17 VDD (power), 18 RB0/PWM0 (io), 19 RB1/PWM1 (io), 20 RB2/PWM2 (io), 21 RB3/PWM3 (io), 22 RB4/KBI0/PWM5 (io), 23 RB5/KBI1/PWM4/PGM (io), 24 RB6/KBI2/PGC (io), 25 RB7/KBI3/PGD (io), 26 ~{{MCLR}/Vpp} (in), 27 RA0/AN0 (io), 28 RA1/AN1 (io)

## PIC18F2331-ISO
designator *  value PIC18F2331-ISO
ki_keywords: Flash-Based 8-Bit Microcontroller XLP; ki_description: 8K Flash, 768B SRAM, 256B EEPROM, nanoWatt XLP, ADC, PWM, SOIC28; ki_fp_filters: SO*W*7.5x17.9mm*P1.27mm*; Footprint: Package_SO:SOIC-28W_7.5x17.9mm_P1.27mm; Supplier: http://ww1.microchip.com/downloads/en/DeviceDoc/39616d.pdf
footprint SOIC-28W_7.5x17.9mm_P1.27mm
pins: 1 ~{{MCLR}/Vpp} (in), 2 RA0/AN0 (io), 3 RA1/AN1 (io), 4 RA2/AN2/Vref-/CAP1/INDX (io), 5 RA3/AN3/Vref+/CAP2/QEA (io), 6 RA4/AN4/CAP3/QEB (io), 7 AVDD (power), 8 AVSS (power), 9 RA7/OSC1/CLKI (io), 10 RA6/OSC2/CLKO (io), 11 T1OSO/T1CKI/RC0 (io), 12 ~{{FLTA}/T1OSI/CCP2/RC1} (io), 13 ~{{FLTB}/CCP1/RC2} (io), 14 INT0/T5CKI/T0CKI/RC3 (io), 15 INT1/SDI/SDA/RC4 (io), 16 INT2/SCK/SCL/RC5 (io), 17 TX/~{{SS}/CK/RC6} (io), 18 RX/SDO/DT/RC7 (io), 19 VSS (power), 20 VDD (power), 21 RB0/PWM0 (io), 22 RB1/PWM1 (io), 23 RB2/PWM2 (io), 24 RB3/PWM3 (io), 25 RB4/KBI0/PWM5 (io), 26 RB5/KBI1/PWM4/PGM (io), 27 RB6/KBI2/PGC (io), 28 RB7/KBI3/PGD (io)

## PIC18F2331-ISP
designator *  value PIC18F2331-ISP
ki_keywords: Flash-Based 8-Bit Microcontroller XLP; ki_description: 8K Flash, 768B SRAM, 256B EEPROM, nanoWatt XLP, ADC, PWM, SPDIP28; ki_fp_filters: DIP*W7.62mm* PDIP*W7.62mm*; Footprint: Package_DIP:DIP-28_W7.62mm; Supplier: http://ww1.microchip.com/downloads/en/DeviceDoc/39616d.pdf
footprint DIP-28_W7.62mm
pins: 1 ~{{MCLR}/Vpp} (in), 2 RA0/AN0 (io), 3 RA1/AN1 (io), 4 RA2/AN2/Vref-/CAP1/INDX (io), 5 RA3/AN3/Vref+/CAP2/QEA (io), 6 RA4/AN4/CAP3/QEB (io), 7 AVDD (power), 8 AVSS (power), 9 RA7/OSC1/CLKI (io), 10 RA6/OSC2/CLKO (io), 11 T1OSO/T1CKI/RC0 (io), 12 ~{{FLTA}/T1OSI/CCP2/RC1} (io), 13 ~{{FLTB}/CCP1/RC2} (io), 14 INT0/T5CKI/T0CKI/RC3 (io), 15 INT1/SDI/SDA/RC4 (io), 16 INT2/SCK/SCL/RC5 (io), 17 TX/~{{SS}/CK/RC6} (io), 18 RX/SDO/DT/RC7 (io), 19 VSS (power), 20 VDD (power), 21 RB0/PWM0 (io), 22 RB1/PWM1 (io), 23 RB2/PWM2 (io), 24 RB3/PWM3 (io), 25 RB4/KBI0/PWM5 (io), 26 RB5/KBI1/PWM4/PGM (io), 27 RB6/KBI2/PGC (io), 28 RB7/KBI3/PGD (io)

## PIC18F2420-xML
designator *  value PIC18F2420-xML
ki_keywords: Flash-Based 8bit CMOS Microcontroller; ki_description: MCU 16k Flash, 768B SRAM, 256B EEPROM, ADC, QFN-28; ki_fp_filters: QFN*1EP*6x6mm*P0.65mm*; Footprint: Package_DFN_QFN:QFN-28-1EP_6x6mm_P0.65mm_EP4.25x4.25mm; Supplier: http://ww1.microchip.com/downloads/en/DeviceDoc/39631E.pdf
footprint QFN-28-1EP_6x6mm_P0.65mm_EP4.25x4.25mm
pins: 1 RE3/~{{MCLR}} (in), 2 RA0 (io), 3 RA1 (io), 4 RA2 (io), 5 RA3 (io), 6 RA4 (io), 7 RA5 (io), 8 VSS (power), 9 RA7 (io), 10 RA6 (io), 11 RC0 (io), 12 RC1 (io), 13 RC2 (io), 14 RC3 (io), 15 RC4 (io), 16 RC5 (io), 17 RC6 (io), 18 RC7 (io), 19 VSS hidden, 20 VDD (power), 21 RB0 (io), 22 RB1 (io), 23 RB2 (io), 24 RB3 (io), 25 RB4 (io), 26 RB5 (io), 27 RB6 (io), 28 RB7 (io), 29 EP

## PIC18F2420-xSP
designator *  value PIC18F2420-xSP
ki_keywords: Flash-Based 8bit CMOS Microcontroller; ki_description: MCU 16k Flash, 768B SRAM, 256B EEPROM, ADC, DIP-28; ki_fp_filters: DIP*W15.24mm*; Footprint: Package_DIP:DIP-28_W15.24mm; Supplier: http://ww1.microchip.com/downloads/en/DeviceDoc/39631E.pdf
footprint DIP-28_W15.24mm
pins: 1 RE3/~{{MCLR}} (in), 2 RA0 (io), 3 RA1 (io), 4 RA2 (io), 5 RA3 (io), 6 RA4 (io), 7 RA5 (io), 8 VSS (power), 9 RA7 (io), 10 RA6 (io), 11 RC0 (io), 12 RC1 (io), 13 RC2 (io), 14 RC3 (io), 15 RC4 (io), 16 RC5 (io), 17 RC6 (io), 18 RC7 (io), 19 VSS hidden, 20 VDD (power), 21 RB0 (io), 22 RB1 (io), 23 RB2 (io), 24 RB3 (io), 25 RB4 (io), 26 RB5 (io), 27 RB6 (io), 28 RB7 (io)

## PIC18F2431-IML
designator *  value PIC18F2431-IML
ki_keywords: Flash-Based 8-Bit Microcontroller XLP; ki_description: 16K Flash, 768B SRAM, 256B EEPROM, nanoWatt XLP, ADC, PWM, QFN28; ki_fp_filters: QFN*1EP*6x6mm*P0.65mm*; Footprint: Package_DFN_QFN:QFN-28-1EP_6x6mm_P0.65mm_EP4.25x4.25mm; Supplier: http://ww1.microchip.com/downloads/en/DeviceDoc/39616d.pdf
footprint QFN-28-1EP_6x6mm_P0.65mm_EP4.25x4.25mm
pins: 1 RA2/AN2/Vref-/CAP1/INDX (io), 2 RA3/AN3/Vref+/CAP2/QEA (io), 3 RA4/AN4/CAP3/QEB (io), 4 AVDD (power), 5 AVSS (power), 6 RA7/OSC1/CLKI (io), 7 RA6/OSC2/CLKO (io), 8 T1OSO/T1CKI/RC0 (io), 9 ~{{FLTA}/T1OSI/CCP2/RC1} (io), 10 ~{{FLTB}/CCP1/RC2} (io), 11 INT0/T5CKI/T0CKI/RC3 (io), 12 INT1/SDI/SDA/RC4 (io), 13 INT2/SCK/SCL/RC5 (io), 14 TX/~{{SS}/CK/RC6} (io), 15 RX/SDO/DT/RC7 (io), 16 VSS (power), 17 VDD (power), 18 RB0/PWM0 (io), 19 RB1/PWM1 (io), 20 RB2/PWM2 (io), 21 RB3/PWM3 (io), 22 RB4/KBI0/PWM5 (io), 23 RB5/KBI1/PWM4/PGM (io), 24 RB6/KBI2/PGC (io), 25 RB7/KBI3/PGD (io), 26 ~{{MCLR}/Vpp} (in), 27 RA0/AN0 (io), 28 RA1/AN1 (io)

## PIC18F2431-ISO
designator *  value PIC18F2431-ISO
ki_keywords: Flash-Based 8-Bit Microcontroller XLP; ki_description: 16K Flash, 768B SRAM, 256B EEPROM, nanoWatt XLP, ADC, PWM, SOIC28; ki_fp_filters: SO*W*7.5x17.9mm*P1.27mm*; Footprint: Package_SO:SOIC-28W_7.5x17.9mm_P1.27mm; Supplier: http://ww1.microchip.com/downloads/en/DeviceDoc/39616d.pdf
footprint SOIC-28W_7.5x17.9mm_P1.27mm
pins: 1 ~{{MCLR}/Vpp} (in), 2 RA0/AN0 (io), 3 RA1/AN1 (io), 4 RA2/AN2/Vref-/CAP1/INDX (io), 5 RA3/AN3/Vref+/CAP2/QEA (io), 6 RA4/AN4/CAP3/QEB (io), 7 AVDD (power), 8 AVSS (power), 9 RA7/OSC1/CLKI (io), 10 RA6/OSC2/CLKO (io), 11 T1OSO/T1CKI/RC0 (io), 12 ~{{FLTA}/T1OSI/CCP2/RC1} (io), 13 ~{{FLTB}/CCP1/RC2} (io), 14 INT0/T5CKI/T0CKI/RC3 (io), 15 INT1/SDI/SDA/RC4 (io), 16 INT2/SCK/SCL/RC5 (io), 17 TX/~{{SS}/CK/RC6} (io), 18 RX/SDO/DT/RC7 (io), 19 VSS (power), 20 VDD (power), 21 RB0/PWM0 (io), 22 RB1/PWM1 (io), 23 RB2/PWM2 (io), 24 RB3/PWM3 (io), 25 RB4/KBI0/PWM5 (io), 26 RB5/KBI1/PWM4/PGM (io), 27 RB6/KBI2/PGC (io), 28 RB7/KBI3/PGD (io)

## PIC18F2431-ISP
designator *  value PIC18F2431-ISP
ki_keywords: Flash-Based 8-Bit Microcontroller XLP; ki_description: 16K Flash, 768B SRAM, 256B EEPROM, nanoWatt XLP, ADC, PWM, SPDIP28; ki_fp_filters: DIP*W7.62mm* PDIP*W7.62mm*; Footprint: Package_DIP:DIP-28_W7.62mm; Supplier: http://ww1.microchip.com/downloads/en/DeviceDoc/39616d.pdf
footprint DIP-28_W7.62mm
pins: 1 ~{{MCLR}/Vpp} (in), 2 RA0/AN0 (io), 3 RA1/AN1 (io), 4 RA2/AN2/Vref-/CAP1/INDX (io), 5 RA3/AN3/Vref+/CAP2/QEA (io), 6 RA4/AN4/CAP3/QEB (io), 7 AVDD (power), 8 AVSS (power), 9 RA7/OSC1/CLKI (io), 10 RA6/OSC2/CLKO (io), 11 T1OSO/T1CKI/RC0 (io), 12 ~{{FLTA}/T1OSI/CCP2/RC1} (io), 13 ~{{FLTB}/CCP1/RC2} (io), 14 INT0/T5CKI/T0CKI/RC3 (io), 15 INT1/SDI/SDA/RC4 (io), 16 INT2/SCK/SCL/RC5 (io), 17 TX/~{{SS}/CK/RC6} (io), 18 RX/SDO/DT/RC7 (io), 19 VSS (power), 20 VDD (power), 21 RB0/PWM0 (io), 22 RB1/PWM1 (io), 23 RB2/PWM2 (io), 24 RB3/PWM3 (io), 25 RB4/KBI0/PWM5 (io), 26 RB5/KBI1/PWM4/PGM (io), 27 RB6/KBI2/PGC (io), 28 RB7/KBI3/PGD (io)

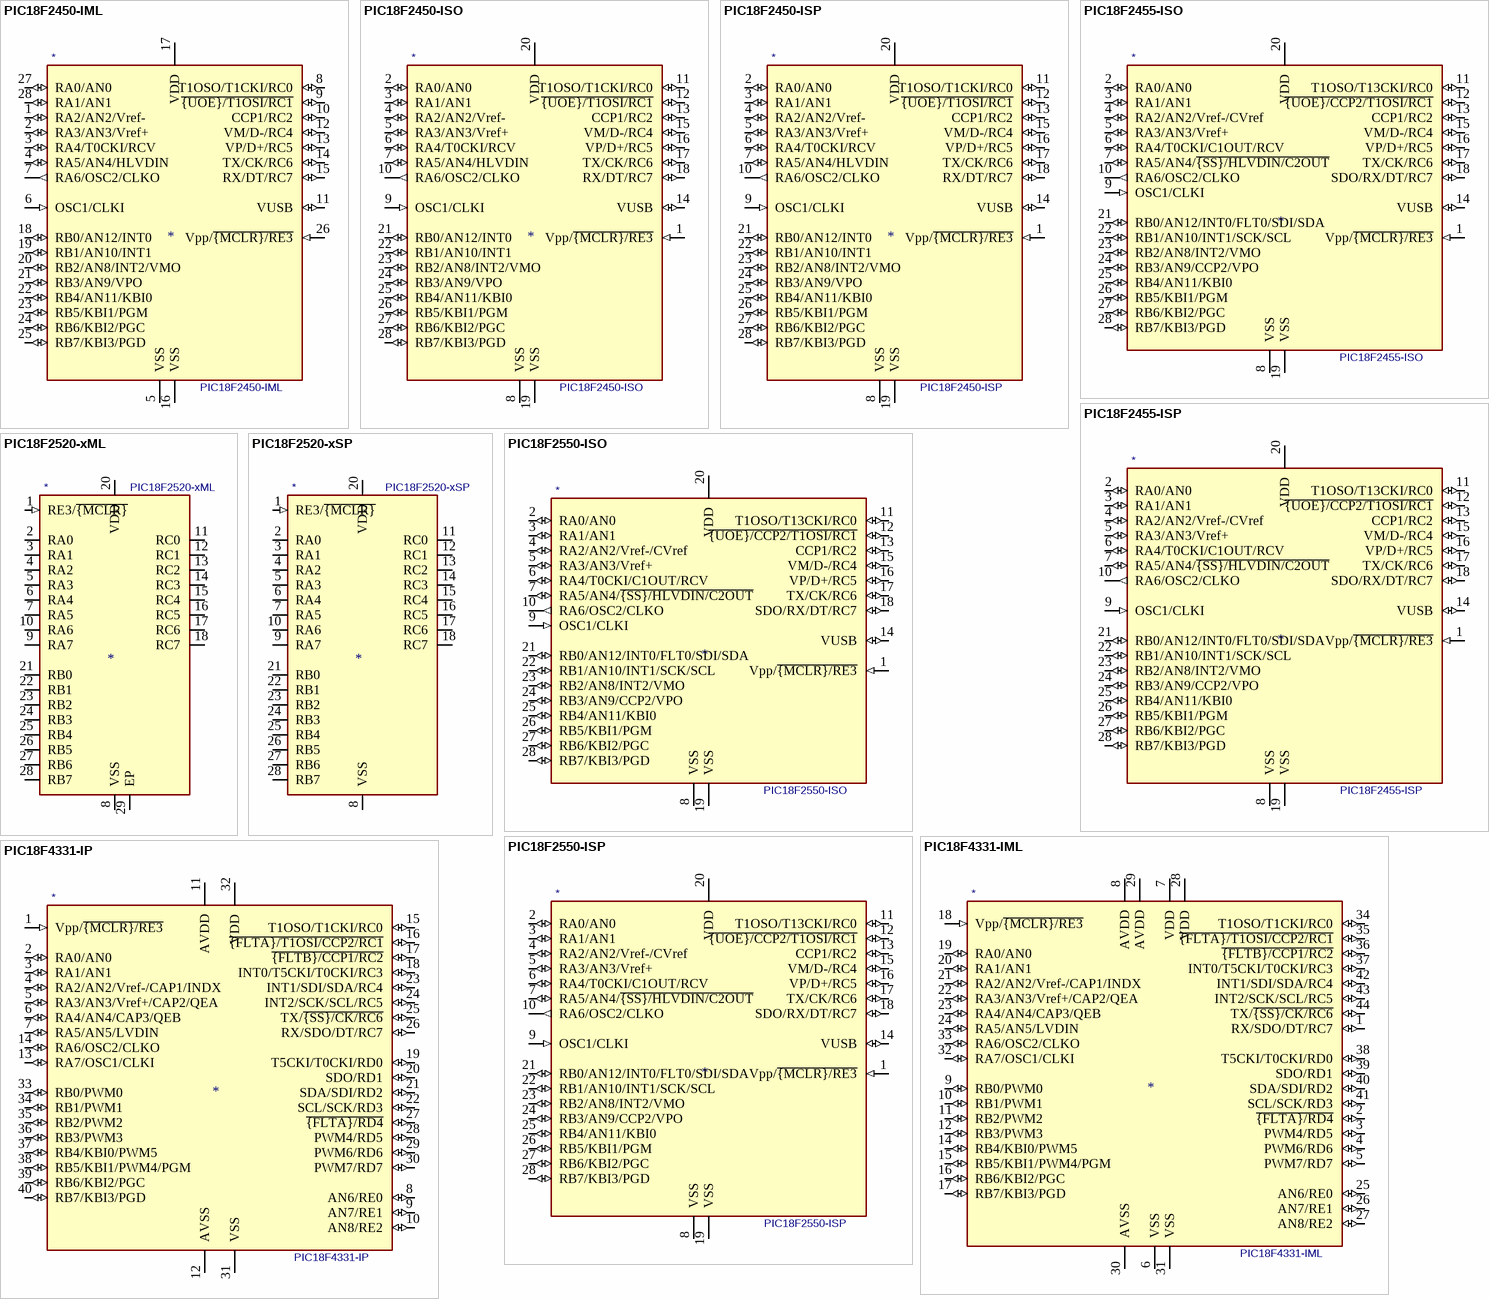
[diagram p7: symbols PIC18F2450-IML to PIC18F4331-IP]

## PIC18F2450-IML
designator *  value PIC18F2450-IML
ki_keywords: Flash-Based 8-Bit Microcontroller XLP; ki_description: 16K Flash, 8K SRAM, USB, nanoWatt XLP, QFN28; ki_fp_filters: QFN*1EP*6x6mm*P0.65mm*; Footprint: Package_DFN_QFN:QFN-28-1EP_6x6mm_P0.65mm_EP4.25x4.25mm; Supplier: http://ww1.microchip.com/downloads/en/DeviceDoc/39760d.pdf
footprint QFN-28-1EP_6x6mm_P0.65mm_EP4.25x4.25mm
pins: 1 RA2/AN2/Vref- (io), 2 RA3/AN3/Vref+ (io), 3 RA4/T0CKI/RCV (io), 4 RA5/AN4/HLVDIN (io), 5 VSS (power), 6 OSC1/CLKI (in), 7 RA6/OSC2/CLKO (out), 8 T1OSO/T1CKI/RC0 (io), 9 ~{{UOE}/T1OSI/RC1} (io), 10 CCP1/RC2 (io), 11 VUSB (io), 12 VM/D-/RC4 (io), 13 VP/D+/RC5 (io), 14 TX/CK/RC6 (io), 15 RX/DT/RC7 (io), 16 VSS (power), 17 VDD (power), 18 RB0/AN12/INT0 (io), 19 RB1/AN10/INT1 (io), 20 RB2/AN8/INT2/VMO (io), 21 RB3/AN9/VPO (io), 22 RB4/AN11/KBI0 (io), 23 RB5/KBI1/PGM (io), 24 RB6/KBI2/PGC (io), 25 RB7/KBI3/PGD (io), 26 Vpp/~{{MCLR}/RE3} (in), 27 RA0/AN0 (io), 28 RA1/AN1 (io)

## PIC18F2450-ISO
designator *  value PIC18F2450-ISO
ki_keywords: Flash-Based 8-Bit Microcontroller XLP; ki_description: 16K Flash, 8K SRAM, USB, nanoWatt XLP, SOIC28; ki_fp_filters: SOIC*W*7.5x12.8mm*P1.27mm*; Footprint: Package_SO:SOIC-20W_7.5x12.8mm_P1.27mm; Supplier: http://ww1.microchip.com/downloads/en/DeviceDoc/39760d.pdf
footprint SOIC-20W_7.5x12.8mm_P1.27mm
pins: 1 Vpp/~{{MCLR}/RE3} (in), 2 RA0/AN0 (io), 3 RA1/AN1 (io), 4 RA2/AN2/Vref- (io), 5 RA3/AN3/Vref+ (io), 6 RA4/T0CKI/RCV (io), 7 RA5/AN4/HLVDIN (io), 8 VSS (power), 9 OSC1/CLKI (in), 10 RA6/OSC2/CLKO (out), 11 T1OSO/T1CKI/RC0 (io), 12 ~{{UOE}/T1OSI/RC1} (io), 13 CCP1/RC2 (io), 14 VUSB (io), 15 VM/D-/RC4 (io), 16 VP/D+/RC5 (io), 17 TX/CK/RC6 (io), 18 RX/DT/RC7 (io), 19 VSS (power), 20 VDD (power), 21 RB0/AN12/INT0 (io), 22 RB1/AN10/INT1 (io), 23 RB2/AN8/INT2/VMO (io), 24 RB3/AN9/VPO (io), 25 RB4/AN11/KBI0 (io), 26 RB5/KBI1/PGM (io), 27 RB6/KBI2/PGC (io), 28 RB7/KBI3/PGD (io)

## PIC18F2450-ISP
designator *  value PIC18F2450-ISP
ki_keywords: Flash-Based 8-Bit Microcontroller XLP; ki_description: 16K Flash, 8K SRAM, USB, nanoWatt XLP, SPDIP28; ki_fp_filters: SPDIP*W7.62mm* DIP*W7.62mm* PDIP*W7.62mm*; Footprint: Package_DIP:DIP-28_W7.62mm; Supplier: http://ww1.microchip.com/downloads/en/DeviceDoc/39760d.pdf
footprint DIP-28_W7.62mm
pins: 1 Vpp/~{{MCLR}/RE3} (in), 2 RA0/AN0 (io), 3 RA1/AN1 (io), 4 RA2/AN2/Vref- (io), 5 RA3/AN3/Vref+ (io), 6 RA4/T0CKI/RCV (io), 7 RA5/AN4/HLVDIN (io), 8 VSS (power), 9 OSC1/CLKI (in), 10 RA6/OSC2/CLKO (out), 11 T1OSO/T1CKI/RC0 (io), 12 ~{{UOE}/T1OSI/RC1} (io), 13 CCP1/RC2 (io), 14 VUSB (io), 15 VM/D-/RC4 (io), 16 VP/D+/RC5 (io), 17 TX/CK/RC6 (io), 18 RX/DT/RC7 (io), 19 VSS (power), 20 VDD (power), 21 RB0/AN12/INT0 (io), 22 RB1/AN10/INT1 (io), 23 RB2/AN8/INT2/VMO (io), 24 RB3/AN9/VPO (io), 25 RB4/AN11/KBI0 (io), 26 RB5/KBI1/PGM (io), 27 RB6/KBI2/PGC (io), 28 RB7/KBI3/PGD (io)

## PIC18F2455-ISO
designator *  value PIC18F2455-ISO
ki_keywords: Flash-Based 8-Bit Microcontroller XLP; ki_description: 24K Flash, 2K SRAM, 256 EEPROM, USB, nanoWatt XLP, SOIC28; ki_fp_filters: SO*W*7.5x17.9mm_P1.27mm*; Footprint: Package_SO:SOIC-28W_7.5x17.9mm_P1.27mm; Supplier: http://ww1.microchip.com/downloads/en/devicedoc/39632c.pdf
footprint SOIC-28W_7.5x17.9mm_P1.27mm
pins: 1 Vpp/~{{MCLR}/RE3} (in), 2 RA0/AN0 (io), 3 RA1/AN1 (io), 4 RA2/AN2/Vref-/CVref (io), 5 RA3/AN3/Vref+ (io), 6 RA4/T0CKI/C1OUT/RCV (io), 7 RA5/AN4/~{{SS}/HLVDIN/C2OUT} (io), 8 VSS (power), 9 OSC1/CLKI (in), 10 RA6/OSC2/CLKO (out), 11 T1OSO/T13CKI/RC0 (io), 12 ~{{UOE}/CCP2/T1OSI/RC1} (io), 13 CCP1/RC2 (io), 14 VUSB (io), 15 VM/D-/RC4 (io), 16 VP/D+/RC5 (io), 17 TX/CK/RC6 (io), 18 SDO/RX/DT/RC7 (io), 19 VSS (power), 20 VDD (power), 21 RB0/AN12/INT0/FLT0/SDI/SDA (io), 22 RB1/AN10/INT1/SCK/SCL (io), 23 RB2/AN8/INT2/VMO (io), 24 RB3/AN9/CCP2/VPO (io), 25 RB4/AN11/KBI0 (io), 26 RB5/KBI1/PGM (io), 27 RB6/KBI2/PGC (io), 28 RB7/KBI3/PGD (io)

## PIC18F2455-ISP
designator *  value PIC18F2455-ISP
ki_keywords: Flash-Based 8-Bit Microcontroller XLP; ki_description: 24K Flash, 2K SRAM, 256 EEPROM, USB, nanoWatt XLP, SPDIP28; ki_fp_filters: SPDIP*28_W7.62mm* DIP*28_W7.62mm* PDIP*28_W7.62mm*; Footprint: Package_DIP:DIP-28_W7.62mm; Supplier: http://ww1.microchip.com/downloads/en/devicedoc/39632c.pdf
footprint DIP-28_W7.62mm
pins: 1 Vpp/~{{MCLR}/RE3} (in), 2 RA0/AN0 (io), 3 RA1/AN1 (io), 4 RA2/AN2/Vref-/CVref (io), 5 RA3/AN3/Vref+ (io), 6 RA4/T0CKI/C1OUT/RCV (io), 7 RA5/AN4/~{{SS}/HLVDIN/C2OUT} (io), 8 VSS (power), 9 OSC1/CLKI (in), 10 RA6/OSC2/CLKO (out), 11 T1OSO/T13CKI/RC0 (io), 12 ~{{UOE}/CCP2/T1OSI/RC1} (io), 13 CCP1/RC2 (io), 14 VUSB (io), 15 VM/D-/RC4 (io), 16 VP/D+/RC5 (io), 17 TX/CK/RC6 (io), 18 SDO/RX/DT/RC7 (io), 19 VSS (power), 20 VDD (power), 21 RB0/AN12/INT0/FLT0/SDI/SDA (io), 22 RB1/AN10/INT1/SCK/SCL (io), 23 RB2/AN8/INT2/VMO (io), 24 RB3/AN9/CCP2/VPO (io), 25 RB4/AN11/KBI0 (io), 26 RB5/KBI1/PGM (io), 27 RB6/KBI2/PGC (io), 28 RB7/KBI3/PGD (io)

## PIC18F2520-xML
designator *  value PIC18F2520-xML
ki_keywords: Flash-Based 8bit CMOS Microcontroller; ki_description: MCU 32k Flash, 1536B SRAM, 256B EEPROM, ADC, QFN-28; ki_fp_filters: QFN*1EP*6x6mm*P0.65mm*; Footprint: Package_DFN_QFN:QFN-28-1EP_6x6mm_P0.65mm_EP4.25x4.25mm; Supplier: http://ww1.microchip.com/downloads/en/DeviceDoc/39631E.pdf
footprint QFN-28-1EP_6x6mm_P0.65mm_EP4.25x4.25mm
pins: 1 RE3/~{{MCLR}} (in), 2 RA0 (io), 3 RA1 (io), 4 RA2 (io), 5 RA3 (io), 6 RA4 (io), 7 RA5 (io), 8 VSS (power), 9 RA7 (io), 10 RA6 (io), 11 RC0 (io), 12 RC1 (io), 13 RC2 (io), 14 RC3 (io), 15 RC4 (io), 16 RC5 (io), 17 RC6 (io), 18 RC7 (io), 19 VSS hidden, 20 VDD (power), 21 RB0 (io), 22 RB1 (io), 23 RB2 (io), 24 RB3 (io), 25 RB4 (io), 26 RB5 (io), 27 RB6 (io), 28 RB7 (io), 29 EP

## PIC18F2520-xSP
designator *  value PIC18F2520-xSP
ki_keywords: Flash-Based 8bit CMOS Microcontroller; ki_description: MCU 32k Flash, 1536B SRAM, 256B EEPROM, ADC, DIP-28; ki_fp_filters: DIP*W15.24mm*; Footprint: Package_DIP:DIP-28_W15.24mm; Supplier: http://ww1.microchip.com/downloads/en/DeviceDoc/39631E.pdf
footprint DIP-28_W15.24mm
pins: 1 RE3/~{{MCLR}} (in), 2 RA0 (io), 3 RA1 (io), 4 RA2 (io), 5 RA3 (io), 6 RA4 (io), 7 RA5 (io), 8 VSS (power), 9 RA7 (io), 10 RA6 (io), 11 RC0 (io), 12 RC1 (io), 13 RC2 (io), 14 RC3 (io), 15 RC4 (io), 16 RC5 (io), 17 RC6 (io), 18 RC7 (io), 19 VSS hidden, 20 VDD (power), 21 RB0 (io), 22 RB1 (io), 23 RB2 (io), 24 RB3 (io), 25 RB4 (io), 26 RB5 (io), 27 RB6 (io), 28 RB7 (io)

## PIC18F2550-ISO
designator *  value PIC18F2550-ISO
ki_keywords: Flash-Based 8-Bit Microcontroller XLP; ki_description: 32K Flash, 2K SRAM, 256 EEPROM, USB, nanoWatt XLP, SOIC28; ki_fp_filters: SO*W*7.5x17.9mm_P1.27mm*; Footprint: Package_SO:SOIC-28W_7.5x17.9mm_P1.27mm; Supplier: http://ww1.microchip.com/downloads/en/devicedoc/39632c.pdf
footprint SOIC-28W_7.5x17.9mm_P1.27mm
pins: 1 Vpp/~{{MCLR}/RE3} (in), 2 RA0/AN0 (io), 3 RA1/AN1 (io), 4 RA2/AN2/Vref-/CVref (io), 5 RA3/AN3/Vref+ (io), 6 RA4/T0CKI/C1OUT/RCV (io), 7 RA5/AN4/~{{SS}/HLVDIN/C2OUT} (io), 8 VSS (power), 9 OSC1/CLKI (in), 10 RA6/OSC2/CLKO (out), 11 T1OSO/T13CKI/RC0 (io), 12 ~{{UOE}/CCP2/T1OSI/RC1} (io), 13 CCP1/RC2 (io), 14 VUSB (io), 15 VM/D-/RC4 (io), 16 VP/D+/RC5 (io), 17 TX/CK/RC6 (io), 18 SDO/RX/DT/RC7 (io), 19 VSS (power), 20 VDD (power), 21 RB0/AN12/INT0/FLT0/SDI/SDA (io), 22 RB1/AN10/INT1/SCK/SCL (io), 23 RB2/AN8/INT2/VMO (io), 24 RB3/AN9/CCP2/VPO (io), 25 RB4/AN11/KBI0 (io), 26 RB5/KBI1/PGM (io), 27 RB6/KBI2/PGC (io), 28 RB7/KBI3/PGD (io)

## PIC18F2550-ISP
designator *  value PIC18F2550-ISP
ki_keywords: Flash-Based 8-Bit Microcontroller XLP; ki_description: 32K Flash, 2K SRAM, 256 EEPROM, USB, nanoWatt XLP, SPDIP28; ki_fp_filters: SPDIP*28_W7.62mm* DIP*28_W7.62mm* PDIP*28_W7.62mm*; Footprint: Package_DIP:DIP-28_W7.62mm; Supplier: http://ww1.microchip.com/downloads/en/devicedoc/39632c.pdf
footprint DIP-28_W7.62mm
pins: 1 Vpp/~{{MCLR}/RE3} (in), 2 RA0/AN0 (io), 3 RA1/AN1 (io), 4 RA2/AN2/Vref-/CVref (io), 5 RA3/AN3/Vref+ (io), 6 RA4/T0CKI/C1OUT/RCV (io), 7 RA5/AN4/~{{SS}/HLVDIN/C2OUT} (io), 8 VSS (power), 9 OSC1/CLKI (in), 10 RA6/OSC2/CLKO (out), 11 T1OSO/T13CKI/RC0 (io), 12 ~{{UOE}/CCP2/T1OSI/RC1} (io), 13 CCP1/RC2 (io), 14 VUSB (io), 15 VM/D-/RC4 (io), 16 VP/D+/RC5 (io), 17 TX/CK/RC6 (io), 18 SDO/RX/DT/RC7 (io), 19 VSS (power), 20 VDD (power), 21 RB0/AN12/INT0/FLT0/SDI/SDA (io), 22 RB1/AN10/INT1/SCK/SCL (io), 23 RB2/AN8/INT2/VMO (io), 24 RB3/AN9/CCP2/VPO (io), 25 RB4/AN11/KBI0 (io), 26 RB5/KBI1/PGM (io), 27 RB6/KBI2/PGC (io), 28 RB7/KBI3/PGD (io)

## PIC18F4331-IML
designator *  value PIC18F4331-IML
ki_keywords: Flash-Based 8-Bit Microcontroller XLP; ki_description: 8K Flash, 768B SRAM, 256B EEPROM, nanoWatt XLP, ADC, PWM, QFN44; ki_fp_filters: QFN*1EP*8x8mm*P0.65mm*; Footprint: Package_DFN_QFN:QFN-44-1EP_8x8mm_P0.65mm_EP6.45x6.45mm; Supplier: http://ww1.microchip.com/downloads/en/DeviceDoc/39616d.pdf
footprint QFN-44-1EP_8x8mm_P0.65mm_EP6.45x6.45mm
pins: 1 RX/SDO/DT/RC7 (io), 2 ~{{FLTA}/RD4} (io), 3 PWM4/RD5 (io), 4 PWM6/RD6 (io), 5 PWM7/RD7 (io), 6 VSS (power), 7 VDD (power), 8 AVDD (power), 9 RB0/PWM0 (io), 10 RB1/PWM1 (io), 11 RB2/PWM2 (io), 12 RB3/PWM3 (io), 13 NC (in) hidden, 14 RB4/KBI0/PWM5 (io), 15 RB5/KBI1/PWM4/PGM (io), 16 RB6/KBI2/PGC (io), 17 RB7/KBI3/PGD (io), 18 Vpp/~{{MCLR}/RE3} (in), 19 RA0/AN0 (io), 20 RA1/AN1 (io), 21 RA2/AN2/Vref-/CAP1/INDX (io), 22 RA3/AN3/Vref+/CAP2/QEA (io), 23 RA4/AN4/CAP3/QEB (io), 24 RA5/AN5/LVDIN (io), 25 AN6/RE0 (io), 26 AN7/RE1 (io), 27 AN8/RE2 (io), 28 VDD (power), 29 AVDD (power), 30 AVSS (power), 31 VSS (power), 32 RA7/OSC1/CLKI (io), 33 RA6/OSC2/CLKO (io), 34 T1OSO/T1CKI/RC0 (io), 35 ~{{FLTA}/T1OSI/CCP2/RC1} (io), 36 ~{{FLTB}/CCP1/RC2} (io), 37 INT0/T5CKI/T0CKI/RC3 (io), 38 T5CKI/T0CKI/RD0 (io), 39 SDO/RD1 (io), 40 SDA/SDI/RD2 (io), 41 SCL/SCK/RD3 (io), 42 INT1/SDI/SDA/RC4 (io), 43 INT2/SCK/SCL/RC5 (io), 44 TX/~{{SS}/CK/RC6} (io)

## PIC18F4331-IP
designator *  value PIC18F4331-IP
ki_keywords: Flash-Based 8-Bit Microcontroller XLP; ki_description: 8K Flash, 768B SRAM, 256B EEPROM, nanoWatt XLP, ADC, PWM, DIP40; ki_fp_filters: DIP*W15.24* PDIP*W15.24*; Footprint: Package_DIP:DIP-40_W15.24mm; Supplier: http://ww1.microchip.com/downloads/en/DeviceDoc/39616d.pdf
footprint DIP-40_W15.24mm
pins: 1 Vpp/~{{MCLR}/RE3} (in), 2 RA0/AN0 (io), 3 RA1/AN1 (io), 4 RA2/AN2/Vref-/CAP1/INDX (io), 5 RA3/AN3/Vref+/CAP2/QEA (io), 6 RA4/AN4/CAP3/QEB (io), 7 RA5/AN5/LVDIN (io), 8 AN6/RE0 (io), 9 AN7/RE1 (io), 10 AN8/RE2 (io), 11 AVDD (power), 12 AVSS (power), 13 RA7/OSC1/CLKI (io), 14 RA6/OSC2/CLKO (io), 15 T1OSO/T1CKI/RC0 (io), 16 ~{{FLTA}/T1OSI/CCP2/RC1} (io), 17 ~{{FLTB}/CCP1/RC2} (io), 18 INT0/T5CKI/T0CKI/RC3 (io), 19 T5CKI/T0CKI/RD0 (io), 20 SDO/RD1 (io), 21 SDA/SDI/RD2 (io), 22 SCL/SCK/RD3 (io), 23 INT1/SDI/SDA/RC4 (io), 24 INT2/SCK/SCL/RC5 (io), 25 TX/~{{SS}/CK/RC6} (io), 26 RX/SDO/DT/RC7 (io), 27 ~{{FLTA}/RD4} (io), 28 PWM4/RD5 (io), 29 PWM6/RD6 (io), 30 PWM7/RD7 (io), 31 VSS (power), 32 VDD (power), 33 RB0/PWM0 (io), 34 RB1/PWM1 (io), 35 RB2/PWM2 (io), 36 RB3/PWM3 (io), 37 RB4/KBI0/PWM5 (io), 38 RB5/KBI1/PWM4/PGM (io), 39 RB6/KBI2/PGC (io), 40 RB7/KBI3/PGD (io)

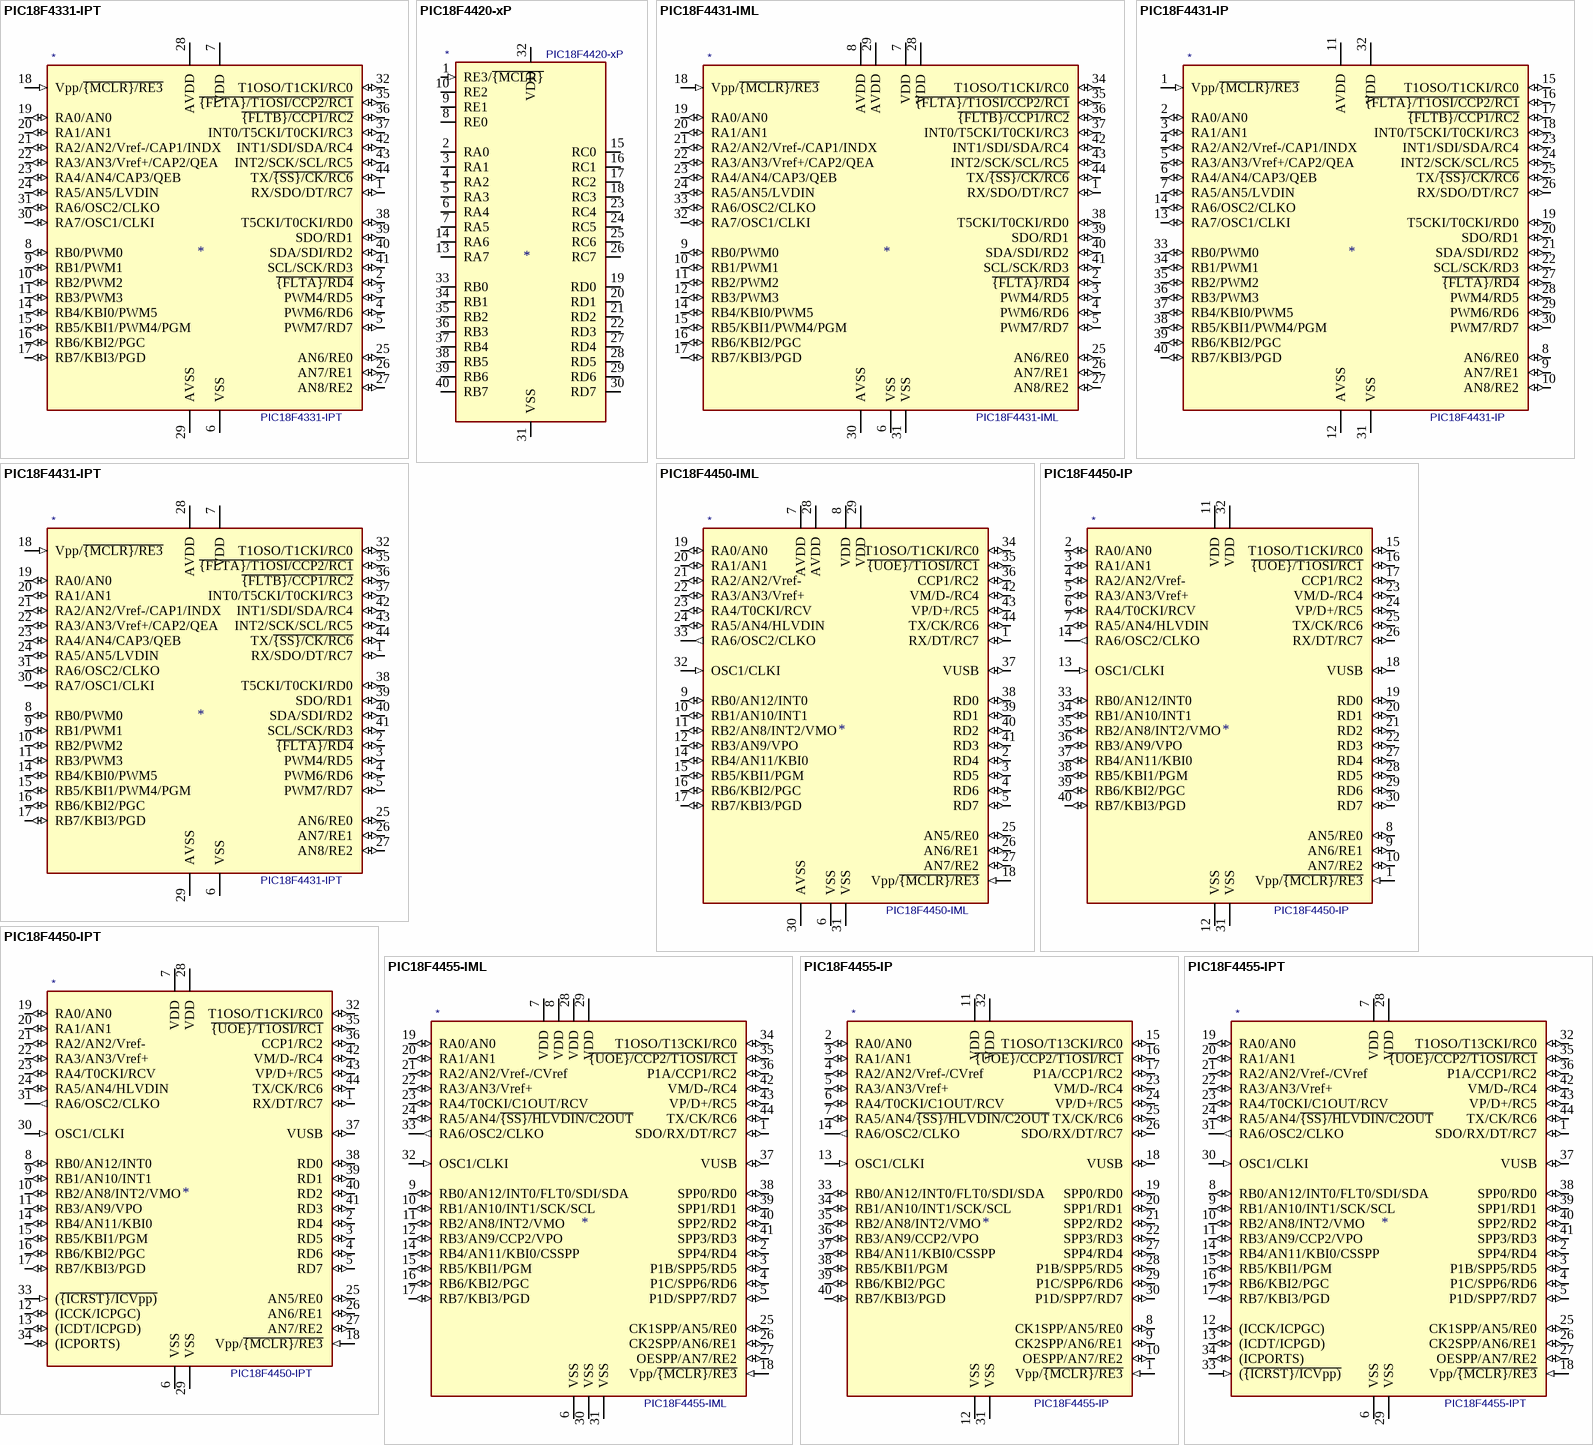
[diagram p8: symbols PIC18F4331-IPT to PIC18F4455-IPT]

## PIC18F4331-IPT
designator *  value PIC18F4331-IPT
ki_keywords: Flash-Based 8-Bit Microcontroller XLP; ki_description: 8K Flash, 768B SRAM, 256B EEPROM, nanoWatt XLP, ADC, PWM, TQFP44; ki_fp_filters: TQFP*10x10mm*P0.8mm*; Footprint: Package_QFP:TQFP-44_10x10mm_P0.8mm; Supplier: http://ww1.microchip.com/downloads/en/DeviceDoc/39616d.pdf
footprint TQFP-44_10x10mm_P0.8mm
pins: 1 RX/SDO/DT/RC7 (io), 2 ~{{FLTA}/RD4} (io), 3 PWM4/RD5 (io), 4 PWM6/RD6 (io), 5 PWM7/RD7 (io), 6 VSS (power), 7 VDD (power), 8 RB0/PWM0 (io), 9 RB1/PWM1 (io), 10 RB2/PWM2 (io), 11 RB3/PWM3 (io), 12 NC (in) hidden, 13 NC (in) hidden, 14 RB4/KBI0/PWM5 (io), 15 RB5/KBI1/PWM4/PGM (io), 16 RB6/KBI2/PGC (io), 17 RB7/KBI3/PGD (io), 18 Vpp/~{{MCLR}/RE3} (in), 19 RA0/AN0 (io), 20 RA1/AN1 (io), 21 RA2/AN2/Vref-/CAP1/INDX (io), 22 RA3/AN3/Vref+/CAP2/QEA (io), 23 RA4/AN4/CAP3/QEB (io), 24 RA5/AN5/LVDIN (io), 25 AN6/RE0 (io), 26 AN7/RE1 (io), 27 AN8/RE2 (io), 28 AVDD (power), 29 AVSS (power), 30 RA7/OSC1/CLKI (io), 31 RA6/OSC2/CLKO (io), 32 T1OSO/T1CKI/RC0 (io), 33 NC (in) hidden, 34 NC (in) hidden, 35 ~{{FLTA}/T1OSI/CCP2/RC1} (io), 36 ~{{FLTB}/CCP1/RC2} (io), 37 INT0/T5CKI/T0CKI/RC3 (io), 38 T5CKI/T0CKI/RD0 (io), 39 SDO/RD1 (io), 40 SDA/SDI/RD2 (io), 41 SCL/SCK/RD3 (io), 42 INT1/SDI/SDA/RC4 (io), 43 INT2/SCK/SCL/RC5 (io), 44 TX/~{{SS}/CK/RC6} (io)

## PIC18F4420-xP
designator *  value PIC18F4420-xP
ki_keywords: Flash-Based 8bit CMOS Microcontroller; ki_description: 16K Flash, 768B SRAM, 256B EEPROM, ADC, DIP-40; ki_fp_filters: DIP*W15.24mm*; Footprint: Package_DIP:DIP-40_W15.24mm; Supplier: http://ww1.microchip.com/downloads/en/DeviceDoc/39631E.pdf
footprint DIP-40_W15.24mm
pins: 1 RE3/~{{MCLR}} (in), 2 RA0 (io), 3 RA1 (io), 4 RA2 (io), 5 RA3 (io), 6 RA4 (io), 7 RA5 (io), 8 RE0 (io), 9 RE1 (io), 10 RE2 (io), 11 VDD hidden, 12 VSS hidden, 13 RA7 (io), 14 RA6 (io), 15 RC0 (io), 16 RC1 (io), 17 RC2 (io), 18 RC3 (io), 19 RD0 (io), 20 RD1 (io), 21 RD2 (io), 22 RD3 (io), 23 RC4 (io), 24 RC5 (io), 25 RC6 (io), 26 RC7 (io), 27 RD4 (io), 28 RD5 (io), 29 RD6 (io), 30 RD7 (io), 31 VSS (power), 32 VDD (power), 33 RB0 (io), 34 RB1 (io), 35 RB2 (io), 36 RB3 (io), 37 RB4 (io), 38 RB5 (io), 39 RB6 (io), 40 RB7 (io)

## PIC18F4431-IML
designator *  value PIC18F4431-IML
ki_keywords: Flash-Based 8-Bit Microcontroller XLP; ki_description: 16K Flash, 768B SRAM, 256B EEPROM, nanoWatt XLP, ADC, PWM, QFN44; ki_fp_filters: QFN*1EP*8x8mm*P0.65mm*; Footprint: Package_DFN_QFN:QFN-44-1EP_8x8mm_P0.65mm_EP6.45x6.45mm; Supplier: http://ww1.microchip.com/downloads/en/DeviceDoc/39616d.pdf
footprint QFN-44-1EP_8x8mm_P0.65mm_EP6.45x6.45mm
pins: 1 RX/SDO/DT/RC7 (io), 2 ~{{FLTA}/RD4} (io), 3 PWM4/RD5 (io), 4 PWM6/RD6 (io), 5 PWM7/RD7 (io), 6 VSS (power), 7 VDD (power), 8 AVDD (power), 9 RB0/PWM0 (io), 10 RB1/PWM1 (io), 11 RB2/PWM2 (io), 12 RB3/PWM3 (io), 13 NC (in) hidden, 14 RB4/KBI0/PWM5 (io), 15 RB5/KBI1/PWM4/PGM (io), 16 RB6/KBI2/PGC (io), 17 RB7/KBI3/PGD (io), 18 Vpp/~{{MCLR}/RE3} (in), 19 RA0/AN0 (io), 20 RA1/AN1 (io), 21 RA2/AN2/Vref-/CAP1/INDX (io), 22 RA3/AN3/Vref+/CAP2/QEA (io), 23 RA4/AN4/CAP3/QEB (io), 24 RA5/AN5/LVDIN (io), 25 AN6/RE0 (io), 26 AN7/RE1 (io), 27 AN8/RE2 (io), 28 VDD (power), 29 AVDD (power), 30 AVSS (power), 31 VSS (power), 32 RA7/OSC1/CLKI (io), 33 RA6/OSC2/CLKO (io), 34 T1OSO/T1CKI/RC0 (io), 35 ~{{FLTA}/T1OSI/CCP2/RC1} (io), 36 ~{{FLTB}/CCP1/RC2} (io), 37 INT0/T5CKI/T0CKI/RC3 (io), 38 T5CKI/T0CKI/RD0 (io), 39 SDO/RD1 (io), 40 SDA/SDI/RD2 (io), 41 SCL/SCK/RD3 (io), 42 INT1/SDI/SDA/RC4 (io), 43 INT2/SCK/SCL/RC5 (io), 44 TX/~{{SS}/CK/RC6} (io)

## PIC18F4431-IP
designator *  value PIC18F4431-IP
ki_keywords: Flash-Based 8-Bit Microcontroller XLP; ki_description: 16K Flash, 768B SRAM, 256B EEPROM, nanoWatt XLP, ADC, PWM, DIP40; ki_fp_filters: DIP*W15.24* PDIP*W15.24*; Footprint: Package_DIP:DIP-40_W15.24mm; Supplier: http://ww1.microchip.com/downloads/en/DeviceDoc/39616d.pdf
footprint DIP-40_W15.24mm
pins: 1 Vpp/~{{MCLR}/RE3} (in), 2 RA0/AN0 (io), 3 RA1/AN1 (io), 4 RA2/AN2/Vref-/CAP1/INDX (io), 5 RA3/AN3/Vref+/CAP2/QEA (io), 6 RA4/AN4/CAP3/QEB (io), 7 RA5/AN5/LVDIN (io), 8 AN6/RE0 (io), 9 AN7/RE1 (io), 10 AN8/RE2 (io), 11 AVDD (power), 12 AVSS (power), 13 RA7/OSC1/CLKI (io), 14 RA6/OSC2/CLKO (io), 15 T1OSO/T1CKI/RC0 (io), 16 ~{{FLTA}/T1OSI/CCP2/RC1} (io), 17 ~{{FLTB}/CCP1/RC2} (io), 18 INT0/T5CKI/T0CKI/RC3 (io), 19 T5CKI/T0CKI/RD0 (io), 20 SDO/RD1 (io), 21 SDA/SDI/RD2 (io), 22 SCL/SCK/RD3 (io), 23 INT1/SDI/SDA/RC4 (io), 24 INT2/SCK/SCL/RC5 (io), 25 TX/~{{SS}/CK/RC6} (io), 26 RX/SDO/DT/RC7 (io), 27 ~{{FLTA}/RD4} (io), 28 PWM4/RD5 (io), 29 PWM6/RD6 (io), 30 PWM7/RD7 (io), 31 VSS (power), 32 VDD (power), 33 RB0/PWM0 (io), 34 RB1/PWM1 (io), 35 RB2/PWM2 (io), 36 RB3/PWM3 (io), 37 RB4/KBI0/PWM5 (io), 38 RB5/KBI1/PWM4/PGM (io), 39 RB6/KBI2/PGC (io), 40 RB7/KBI3/PGD (io)

## PIC18F4431-IPT
designator *  value PIC18F4431-IPT
ki_keywords: Flash-Based 8-Bit Microcontroller XLP; ki_description: 16K Flash, 768B SRAM, 256B EEPROM, nanoWatt XLP, ADC, PWM, TQFP44; ki_fp_filters: TQFP*10x10mm*P0.8mm*; Footprint: Package_QFP:TQFP-44_10x10mm_P0.8mm; Supplier: http://ww1.microchip.com/downloads/en/DeviceDoc/39616d.pdf
footprint TQFP-44_10x10mm_P0.8mm
pins: 1 RX/SDO/DT/RC7 (io), 2 ~{{FLTA}/RD4} (io), 3 PWM4/RD5 (io), 4 PWM6/RD6 (io), 5 PWM7/RD7 (io), 6 VSS (power), 7 VDD (power), 8 RB0/PWM0 (io), 9 RB1/PWM1 (io), 10 RB2/PWM2 (io), 11 RB3/PWM3 (io), 12 NC (in) hidden, 13 NC (in) hidden, 14 RB4/KBI0/PWM5 (io), 15 RB5/KBI1/PWM4/PGM (io), 16 RB6/KBI2/PGC (io), 17 RB7/KBI3/PGD (io), 18 Vpp/~{{MCLR}/RE3} (in), 19 RA0/AN0 (io), 20 RA1/AN1 (io), 21 RA2/AN2/Vref-/CAP1/INDX (io), 22 RA3/AN3/Vref+/CAP2/QEA (io), 23 RA4/AN4/CAP3/QEB (io), 24 RA5/AN5/LVDIN (io), 25 AN6/RE0 (io), 26 AN7/RE1 (io), 27 AN8/RE2 (io), 28 AVDD (power), 29 AVSS (power), 30 RA7/OSC1/CLKI (io), 31 RA6/OSC2/CLKO (io), 32 T1OSO/T1CKI/RC0 (io), 33 NC (in) hidden, 34 NC (in) hidden, 35 ~{{FLTA}/T1OSI/CCP2/RC1} (io), 36 ~{{FLTB}/CCP1/RC2} (io), 37 INT0/T5CKI/T0CKI/RC3 (io), 38 T5CKI/T0CKI/RD0 (io), 39 SDO/RD1 (io), 40 SDA/SDI/RD2 (io), 41 SCL/SCK/RD3 (io), 42 INT1/SDI/SDA/RC4 (io), 43 INT2/SCK/SCL/RC5 (io), 44 TX/~{{SS}/CK/RC6} (io)

## PIC18F4450-IML
designator *  value PIC18F4450-IML
ki_keywords: Flash-Based 8-Bit Microcontroller XLP; ki_description: 16K Flash, 8K SRAM, USB, nanoWatt XLP, QFN44; ki_fp_filters: QFN*1EP*8x8mm*P0.65mm*; Footprint: Package_DFN_QFN:QFN-44-1EP_8x8mm_P0.65mm_EP6.45x6.45mm; Supplier: http://ww1.microchip.com/downloads/en/DeviceDoc/39760d.pdf
footprint QFN-44-1EP_8x8mm_P0.65mm_EP6.45x6.45mm
pins: 1 RX/DT/RC7 (io), 2 RD4 (io), 3 RD5 (io), 4 RD6 (io), 5 RD7 (io), 6 VSS (power), 7 AVDD (power), 8 VDD (power), 9 RB0/AN12/INT0 (io), 10 RB1/AN10/INT1 (io), 11 RB2/AN8/INT2/VMO (io), 12 RB3/AN9/VPO (io), 13 NC (in) hidden, 14 RB4/AN11/KBI0 (io), 15 RB5/KBI1/PGM (io), 16 RB6/KBI2/PGC (io), 17 RB7/KBI3/PGD (io), 18 Vpp/~{{MCLR}/RE3} (in), 19 RA0/AN0 (io), 20 RA1/AN1 (io), 21 RA2/AN2/Vref- (io), 22 RA3/AN3/Vref+ (io), 23 RA4/T0CKI/RCV (io), 24 RA5/AN4/HLVDIN (io), 25 AN5/RE0 (io), 26 AN6/RE1 (io), 27 AN7/RE2 (io), 28 AVDD (power), 29 VDD (power), 30 AVSS (power), 31 VSS (power), 32 OSC1/CLKI (in), 33 RA6/OSC2/CLKO (out), 34 T1OSO/T1CKI/RC0 (io), 35 ~{{UOE}/T1OSI/RC1} (io), 36 CCP1/RC2 (io), 37 VUSB (io), 38 RD0 (io), 39 RD1 (io), 40 RD2 (io), 41 RD3 (io), 42 VM/D-/RC4 (io), 43 VP/D+/RC5 (io), 44 TX/CK/RC6 (io)

## PIC18F4450-IP
designator *  value PIC18F4450-IP
ki_keywords: Flash-Based 8-Bit Microcontroller XLP; ki_description: 16K Flash, 8K SRAM, USB, nanoWatt XLP, PDIP40; ki_fp_filters: DIP*W15.24mm* PDIP*W15.24mm*; Footprint: Package_DIP:DIP-40_W15.24mm; Supplier: http://ww1.microchip.com/downloads/en/DeviceDoc/39760d.pdf
footprint DIP-40_W15.24mm
pins: 1 Vpp/~{{MCLR}/RE3} (in), 2 RA0/AN0 (io), 3 RA1/AN1 (io), 4 RA2/AN2/Vref- (io), 5 RA3/AN3/Vref+ (io), 6 RA4/T0CKI/RCV (io), 7 RA5/AN4/HLVDIN (io), 8 AN5/RE0 (io), 9 AN6/RE1 (io), 10 AN7/RE2 (io), 11 VDD (power), 12 VSS (power), 13 OSC1/CLKI (in), 14 RA6/OSC2/CLKO (out), 15 T1OSO/T1CKI/RC0 (io), 16 ~{{UOE}/T1OSI/RC1} (io), 17 CCP1/RC2 (io), 18 VUSB (io), 19 RD0 (io), 20 RD1 (io), 21 RD2 (io), 22 RD3 (io), 23 VM/D-/RC4 (io), 24 VP/D+/RC5 (io), 25 TX/CK/RC6 (io), 26 RX/DT/RC7 (io), 27 RD4 (io), 28 RD5 (io), 29 RD6 (io), 30 RD7 (io), 31 VSS (power), 32 VDD (power), 33 RB0/AN12/INT0 (io), 34 RB1/AN10/INT1 (io), 35 RB2/AN8/INT2/VMO (io), 36 RB3/AN9/VPO (io), 37 RB4/AN11/KBI0 (io), 38 RB5/KBI1/PGM (io), 39 RB6/KBI2/PGC (io), 40 RB7/KBI3/PGD (io)

## PIC18F4450-IPT
designator *  value PIC18F4450-IPT
ki_keywords: Flash-Based 8-Bit Microcontroller XLP; ki_description: 16K Flash, 8K SRAM, USB, nanoWatt XLP, TQFP44; ki_fp_filters: TQFP*10x10mm*P0.8mm*; Footprint: Package_QFP:TQFP-44_10x10mm_P0.8mm; Supplier: http://ww1.microchip.com/downloads/en/DeviceDoc/39760d.pdf
footprint TQFP-44_10x10mm_P0.8mm
pins: 1 RX/DT/RC7 (io), 2 RD4 (io), 3 RD5 (io), 4 RD6 (io), 5 RD7 (io), 6 VSS (power), 7 VDD (power), 8 RB0/AN12/INT0 (io), 9 RB1/AN10/INT1 (io), 10 RB2/AN8/INT2/VMO (io), 11 RB3/AN9/VPO (io), 12 (ICCK/ICPGC) (io), 13 (ICDT/ICPGD) (io), 14 RB4/AN11/KBI0 (io), 15 RB5/KBI1/PGM (io), 16 RB6/KBI2/PGC (io), 17 RB7/KBI3/PGD (io), 18 Vpp/~{{MCLR}/RE3} (in), 19 RA0/AN0 (io), 20 RA1/AN1 (io), 21 RA2/AN2/Vref- (io), 22 RA3/AN3/Vref+ (io), 23 RA4/T0CKI/RCV (io), 24 RA5/AN4/HLVDIN (io), 25 AN5/RE0 (io), 26 AN6/RE1 (io), 27 AN7/RE2 (io), 28 VDD (power), 29 VSS (power), 30 OSC1/CLKI (in), 31 RA6/OSC2/CLKO (out), 32 T1OSO/T1CKI/RC0 (io), 33 (~{{ICRST}/ICVpp)} (in), 34 (ICPORTS) (io), 35 ~{{UOE}/T1OSI/RC1} (io), 36 CCP1/RC2 (io), 37 VUSB (io), 38 RD0 (io), 39 RD1 (io), 40 RD2 (io), 41 RD3 (io), 42 VM/D-/RC4 (io), 43 VP/D+/RC5 (io), 44 TX/CK/RC6 (io)